# Altium schematic symbol library Symbol_Vlad.SchLib: 330 symbols (part 1 of 3)
Pins are listed as number, name and electrical type; pins without a type are passive.

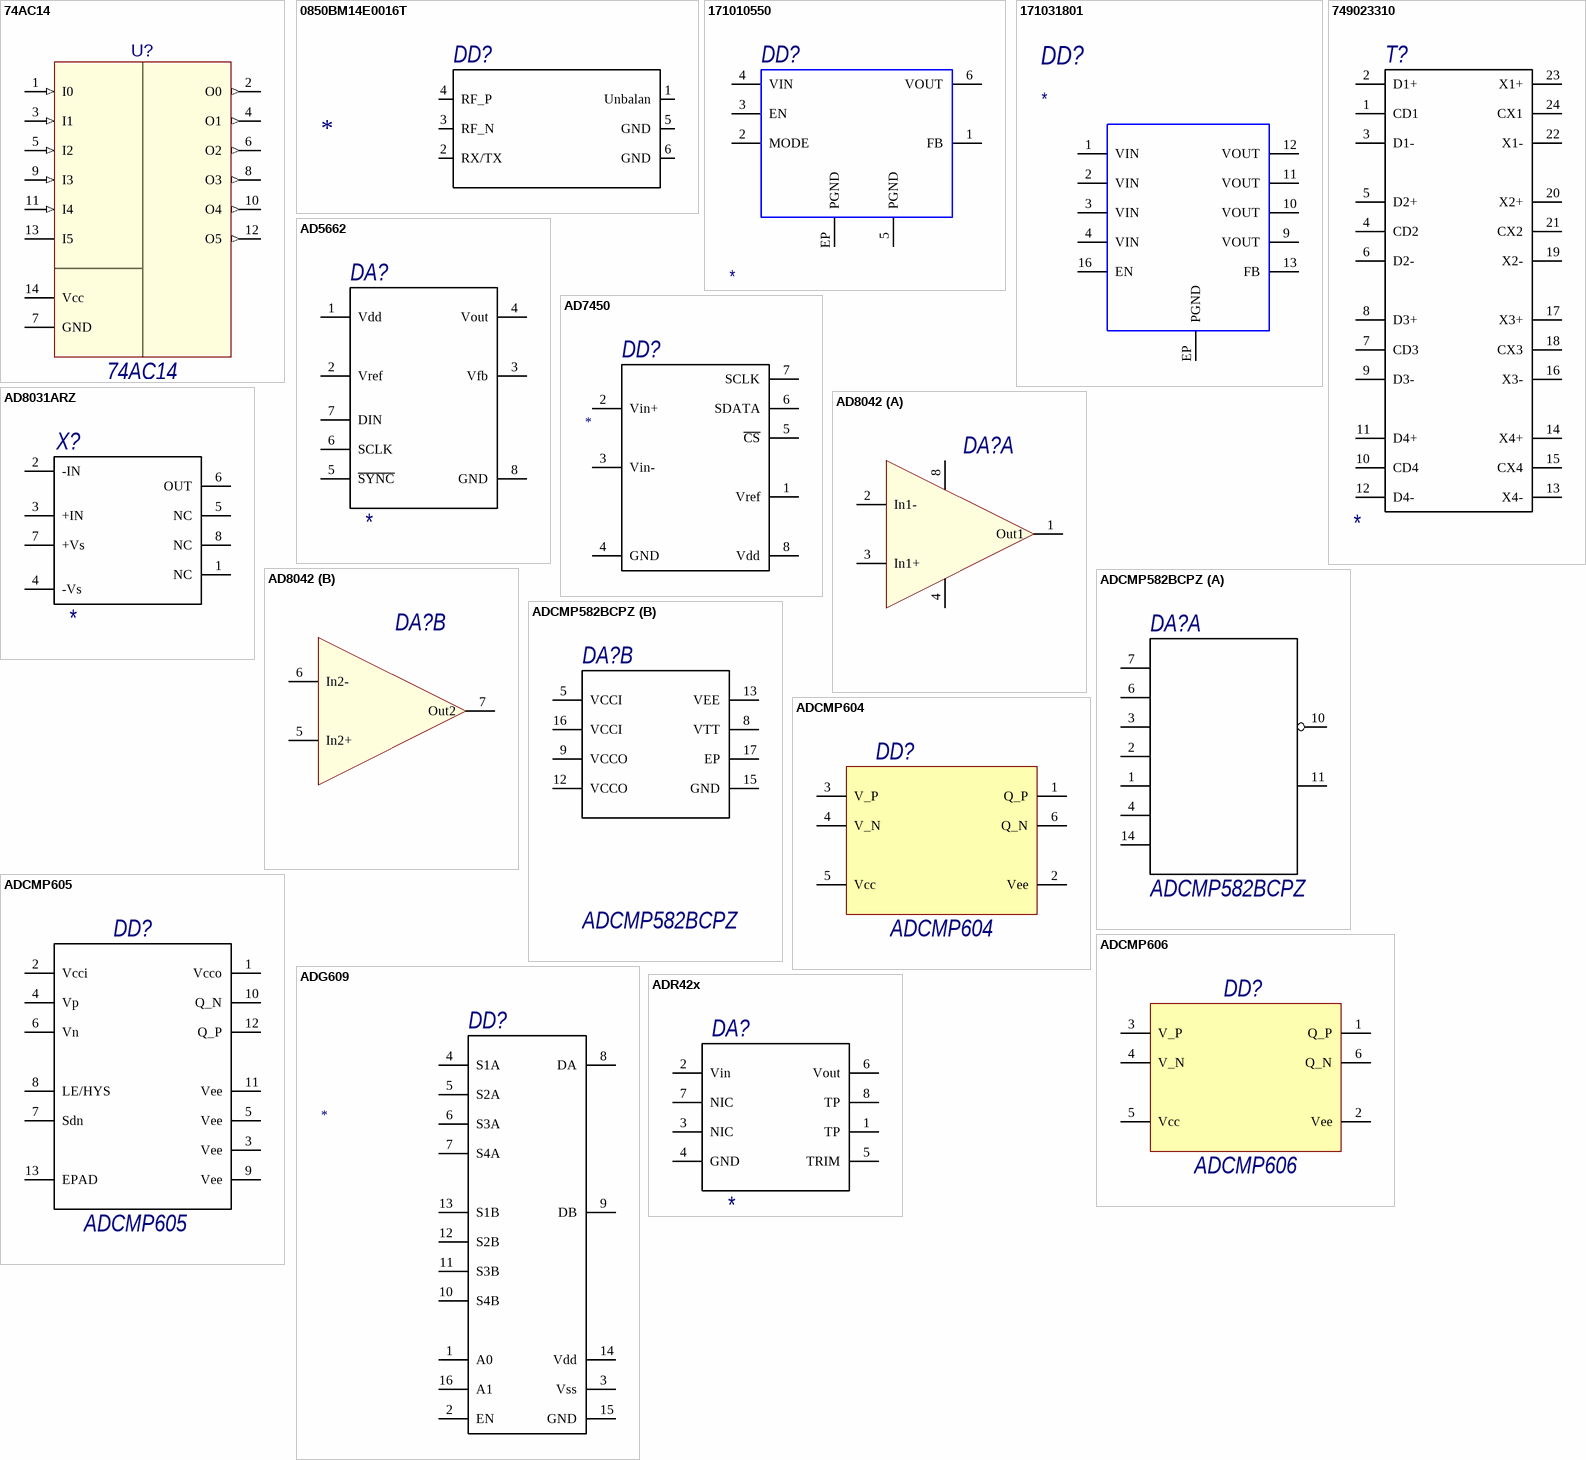
[diagram p0: symbols 74AC14 to ADR42x]

## 74AC14
designator U?
MntType: SMD; BOMDescription: SMD  SO14     74AC14; MPN: 74AC14; MSL: MSL 1; Package: SO14; RoHS: Comply; Pins: 14
footprint SO14
pins: 1 I0 (in), 2 O0 (out), 3 I1 (in), 4 O1 (out), 5 I2 (in), 6 O2 (out), 7 GND, 8 O3 (out), 9 I3 (in), 10 O4 (out), 11 I4 (in), 12 O5 (out), 13 I5, 14 Vcc (power)

## 0850BM14E0016T
designator DD?
pins: 1 Unbalan, 2 RX/TX, 3 RF_N, 4 RF_P, 5 GND, 6 GND

## 171010550
designator DD?
MPN: *
pins: 1 FB, 2 MODE, 3 EN, 4 VIN, 5 PGND, 6 VOUT, EP PGND

## 171031801
designator DD?
MPN: *
pins: 1 VIN, 2 VIN, 3 VIN, 4 VIN, 9 VOUT, 10 VOUT, 11 VOUT, 12 VOUT, 13 FB, 16 EN, EP PGND

## 749023310
designator T?
WE-LAN AQ SMT Transformer, 1000 Base-T, PoE (up to 350 mA), 180uH; MPN: *
footprint 749023310
pins: 1 CD1, 2 D1+, 3 D1-, 4 CD2, 5 D2+, 6 D2-, 7 CD3, 8 D3+, 9 D3-, 10 CD4, 11 D4+, 12 D4-, 13 X4-, 14 X4+, 15 CX4, 16 X3-, 17 X3+, 18 CX3, 19 X2-, 20 X2+, 21 CX2, 22 X1-, 23 X1+, 24 CX1

## AD5662
designator DA?
MPN: *
pins: 1 Vdd "Power Supply input 2.7V-5.5V range, Should be decouple with GND", 2 Vref "Reference Voltage input", 3 Vfb "Feedback input, connect it with Vout", 4 Vout "Analog Output Voltage from DAC", 5 ~{SYNC} "Active Low", 6 SCLK "Serial Clock input, Up to 30MHz", 7 DIN "Serial Data Input for 24-bit shift register", 8 GND "Ground"

## AD7450
designator DD?
pins: 1 Vref, 2 Vin+, 3 Vin-, 4 GND, 5 ~{CS}, 6 SDATA, 7 SCLK, 8 Vdd

## AD8031ARZ
designator X?
ComponentLink1Description: Datasheet; MPN: *
pins: 1 NC, 2 -IN, 3 +IN, 4 -Vs, 5 NC, 6 OUT, 7 +Vs, 8 NC

## AD8042
designator DA?
part A pins: 1 Out1, 2 In1-, 3 In1+, 4 GND (power), 8 V+ (power)
part B pins: 5 In2+, 6 In2-, 7 Out2

## ADCMP582BCPZ
designator DA?
Ultrafast SiGe Voltage Comparator, + / - 5 V, 180 ps Delay, Industrial, 16-pin QFN (CP-16-3), Reel; MPN: ADCMP582BCPZ
part A pins: 1 VTP, 2 VP, 3 VN, 4 VTN, 6 ~{LE}, 7 LE, 10 ~{Q}, 11 Q, 14 HYS
part B pins: 5 VCCI (power) "Positive Supply Voltage.", 8 VTT (power) "Termination Return Pin for the LE/L\E\ Input Pins. For the ADCMP582 (PECL output stage), this pin should be connected to the VCCO -2 V termination potential.", 9 VCCO (power) "Digital Ground Pin/Positive Logic Power Supply Terminal. For the ADCMP582, this pin should be connected to the positive logic power VCCO supply.", 12 VCCO (power) "Digital Ground Pin/Positive Logic Power Supply Terminal. For the ADCMP582, this pin should be connected to the positive logic power VCCO supply.", 13 VEE (power) "Negative Power Supply.", 15 GND (power) "Analog Ground.", 16 VCCI (power) "Positive Supply Voltage.", 17 EP "The metallic back surface of the package is not electrically connected to any part of the circuit. It can be left floating for optimal electrical isolation between the package handle and the substrate of the die. It can also (See Datasheet)"

## ADCMP604
designator DD?
pins: 1 Q_P, 2 Vee, 3 V_P, 4 V_N, 5 Vcc, 6 Q_N

## ADCMP605
designator DD?
pins: 1 Vcco, 2 Vcci, 3 Vee, 4 Vp, 5 Vee, 6 Vn, 7 Sdn, 8 LE/HYS, 9 Vee, 10 Q_N, 11 Vee, 12 Q_P, 13 EPAD

## ADCMP606
designator DD?
pins: 1 Q_P, 2 Vee, 3 V_P, 4 V_N, 5 Vcc, 6 Q_N

## ADG609
designator DD?
pins: 1 A0, 2 EN, 3 Vss, 4 S1A, 5 S2A, 6 S3A, 7 S4A, 8 DA, 9 DB, 10 S4B, 11 S3B, 12 S2B, 13 S1B, 14 Vdd, 15 GND, 16 A1

## ADR42x
designator DA?
ComponentLink1Description: Datasheet; MPN: *
pins: 1 TP "Test Pin, do not connect", 2 Vin "Input Voltage", 3 NIC "No Internal Connect", 4 GND "Ground Pin", 5 TRIM "Trim Terminal", 6 Vout "Output Voltage", 7 NIC "No Internal Connect", 8 TP "Test Pin, do not connect"

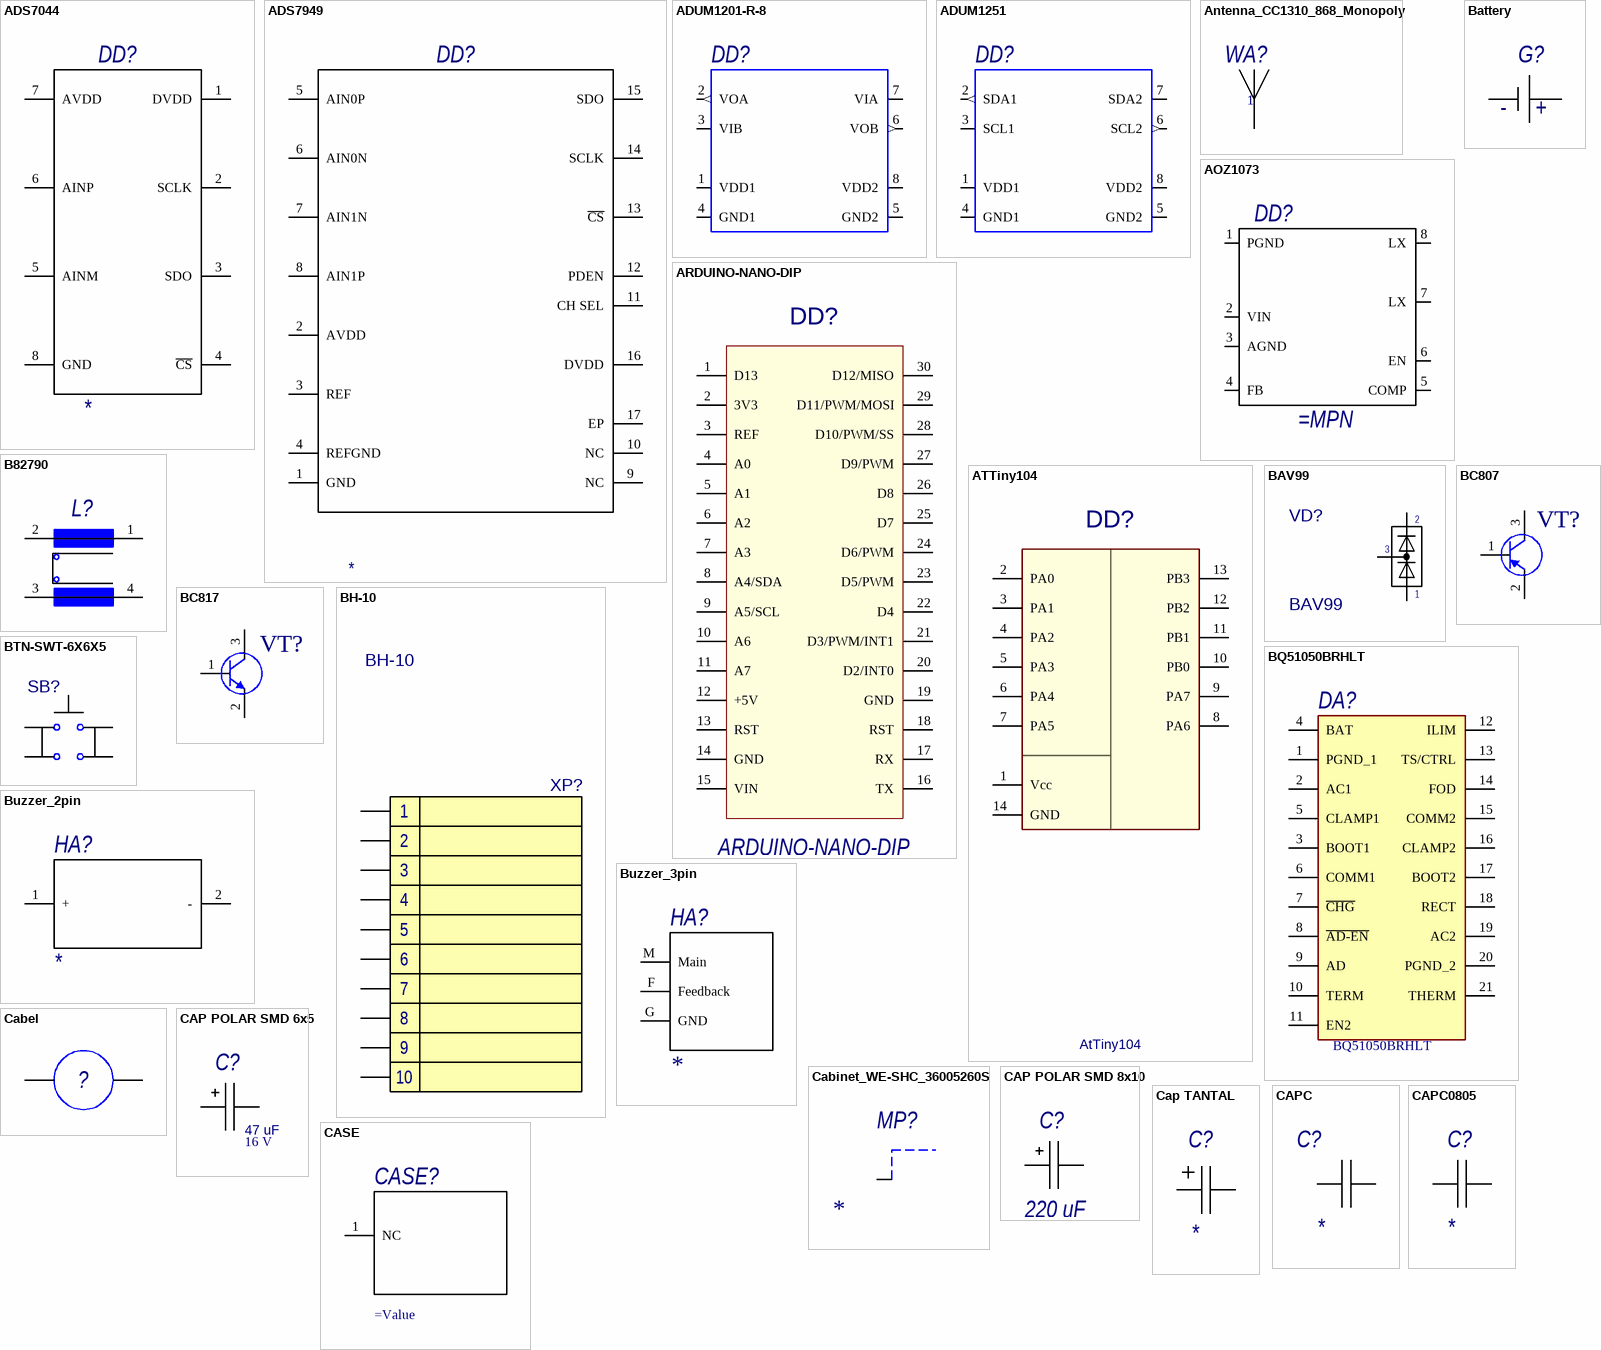
[diagram p1: symbols ADS7044 to CASE]

## ADS7044
designator DD?
ADC Ultra-Low Power, Ultra-Small Size, 12-Bit, 1-MSPS, SAR ADC; MPN: *; Datasheet: *
pins: 1 DVDD, 2 SCLK, 3 SDO, 4 ~{CS}, 5 AINM, 6 AINP, 7 AVDD, 8 GND

## ADS7949
designator DD?
ADC 8-Bit, 2 MSPS, Dual Channel, Pseudo-Differential, uPower Serial SAR, -40 to 125 C, 16-pin QFN (RTE16); MPN: *
pins: 1 GND "Power supply ground; all analog and digital signals are referred with respect to this pin.", 2 AVDD "ADC power supply.", 3 REF "ADC positive reference input; decouple this pin with REFGND", 4 REFGND "Reference return; short to analog ground plane", 5 AIN0P "Positive analog input, channel 0", 6 AIN0N "Negative analog input, channel 0. The allowable signal swing on this pin is ±0.2V; this pin", 7 AIN1N "Negative analog input, channel 1. The allowable signal swing on this pin is ±0.2V; this pin", 8 AIN1P "Positive analog input, channel 1.", 9 NC "Not connected internally, TI recommends externally shorting this pin to GND.", 10 NC "Not connected internally, it is recommended to externally short this pin to GND.", 11 CH SEL "This pin selects the analog input channel. Low = Channel 0 High = Channel 1", 12 PDEN "This pin enables a power-down feature if it is high at the C\S\ rising edge", 13 ~{CS} "Chip select signal; active low", 14 SCLK "Serial SPI clock", 15 SDO "Serial data out", 16 DVDD "Digital I/O supply", 17 EP

## ADUM1201-R-8
designator DD?
pins: 1 VDD1 (power) "Supply Voltage for Isolator Side 1.", 2 VOA (out) "Logic Output A.", 3 VIB "Logic Input B.", 4 GND1 (power) "Ground 1. Ground Reference for Isolator Side 1.", 5 GND2 (power) "Ground 2. Ground Reference for Isolator Side 2.", 6 VOB (out) "Logic Output B.", 7 VIA "Logic Input A.", 8 VDD2 (power) "Supply Voltage for Isolator Side 2."

## ADUM1251
designator DD?
pins: 1 VDD1 (power) "Supply Voltage for Isolator Side 1.", 2 SDA1 (out) "Logic Output A.", 3 SCL1 "Logic Input B.", 4 GND1 (power) "Ground 1. Ground Reference for Isolator Side 1.", 5 GND2 (power) "Ground 2. Ground Reference for Isolator Side 2.", 6 SCL2 (out) "Logic Output B.", 7 SDA2 "Logic Input A.", 8 VDD2 (power) "Supply Voltage for Isolator Side 2."

## Antenna_CC1310_868_Monopoly
designator WA?, comment 1  (no BOM)
pins: 1

## AOZ1073
designator DD?
pins: 1 PGND, 2 VIN, 3 AGND, 4 FB, 5 COMP (power), 6 EN (power), 7 LX (power), 8 LX (power)

## ARDUINO-NANO-DIP
designator DD?
MntType: DIP; BOMDescription: DIP ARDUINO-NANO-DIP      ARDUINO-NANO-DIP; MPN: ARDUINO-NANO-DIP; MSL: MSL 1; RoHS: Comply; PartType: ARDUINO-NANO-DIP
footprint ARDUINO-NANO-DIP
pins: 1 D13, 2 3V3, 3 REF, 4 A0, 5 A1, 6 A2, 7 A3, 8 A4/SDA, 9 A5/SCL, 10 A6, 11 A7, 12 +5V, 13 RST, 14 GND, 15 VIN, 16 TX, 17 RX, 18 RST, 19 GND, 20 D2/INT0, 21 D3/PWM/INT1, 22 D4, 23 D5/PWM, 24 D6/PWM, 25 D7, 26 D8, 27 D9/PWM, 28 D10/PWM/SS, 29 D11/PWM/MOSI, 30 D12/MISO

## ATTiny104
designator DD?, comment AtTiny104
MntType: SMD; BOMDescription: SMD ATTiny104      AtTiny104; MPN: AtTiny104; MSL: MSL 1; RoHS: Comply; PartType: ATTiny104
footprint SOIC127P600X175-14N (SOIC, 14-Leads, Body 8,65x3,90mm, Pitch 1,27mm, IPC Medium Density)
pins: 1 Vcc (power), 2 PA0, 3 PA1, 4 PA2, 5 PA3, 6 PA4, 7 PA5, 8 PA6, 9 PA7, 10 PB0, 11 PB1, 12 PB2, 13 PB3, 14 GND (power)

## B82790
designator L?
pins: 1, 2, 3, 4

## Battery
designator G?  (value not drawn)
pins: 1 +, 2 -

## BAV99
designator VD?
MntType: SMD; BOMDescription: SMD DIODE ARRAY SOT-23     BAV99; MPN: BAV99; MSL: MSL 1; Package: SOT-23; RoHS: Comply; PartType: DIODE ARRAY; Pins: 3
footprint SOT-23
pins: 1, 2, 3

## BC807
designator VT?  (value not drawn)
pins: 1 B, 2 E, 3 C

## BC817
designator VT?  (value not drawn)
pins: 1 B, 2 E, 3 C

## BH-10
designator XP?
MntType: DIP; BOMDescription: DIP CONNECTOR BH-10     BH-10; MPN: BH-10; MSL: MSL 1; Package: BH-10; RoHS: Comply; PartType: CONNECTOR; Pins: 10
footprint BH-10
pins: 1, 2, 3, 4, 5, 6, 7, 8, 9, 10

## BQ51050BRHLT
designator DA?
Power Supply
pins: 1 PGND_1, 2 AC1, 3 BOOT1, 4 BAT, 5 CLAMP1, 6 COMM1, 7 ~{CHG}, 8 ~{AD-EN}, 9 AD, 10 TERM, 11 EN2, 12 ILIM, 13 TS/CTRL, 14 FOD, 15 COMM2, 16 CLAMP2, 17 BOOT2, 18 RECT, 19 AC2, 20 PGND_2, 21 THERM

## BTN-SWT-6X6X5
designator SB?
MPN: BTN-SWT-6X6X5; MntType: SMD; BOMDescription: SMD BUTTON BTN-SWT-6X6X5     BTN-SWT-6X6X5; MSL: MSL 1; Package: BTN-SWT-6X6X5; RoHS: Comply; PartType: BUTTON
footprint BTN-SWT-6X6X5
pins: 1, 2, 3, 4

## Buzzer_2pin
designator HA?
MPN: *
pins: 1 +, 2 -

## Buzzer_3pin
designator HA?
MPN: *
pins: F Feedback, G GND, M Main

## Cabel
designator ?  (value not drawn)
pins: 1, 2

## Cabinet_WE-SHC_36005260S
designator MP?
pins: 1

## CAP POLAR SMD 6x5
designator C?, comment value 47 uF  Voltage: 16 V  (hidden comment: 47 uF 16 V)
MntType: SMD; Tolerance: 20; BOMDescription: SMD ALUMINIUM CAPACITOR ECAP SMD 6x5 47 uF 20 16 V; MSL: MSL 1; Package: ECAP SMD 6x5; RoHS: Comply; PartType: ALUMINIUM CAPACITOR; Pins: 2
footprint CAPAE_POL_SMD_D_0605
pins: 1, 2

## CAP POLAR SMD 8x10
designator C?, comment value 220 uF  (hidden comment: 220 uF 25 V)
MntType: SMD; Tolerance: 20; BOMDescription: SMD ALUMINIUM CAPACITOR ECAP SMD 8x10 220 uF 20 25 V; Voltage: 25 V; MSL: MSL 1; Package: ECAP SMD 8x10; RoHS: Comply; PartType: ALUMINIUM CAPACITOR; Pins: 2
footprint CAPAE_POL_SMD_F_0810
pins: 1, 2

## Cap TANTAL
designator C?
MntType: SMD; BOMDescription: SMD CHIP TANTALUM CAPACITOR CAPT TYPE *; MSL: MSL 1; Package: CAPT TYPE; RoHS: Comply; PartType: CHIP TANTALUM CAPACITOR; Pins: 2; Value: *
footprint TYPEC
footprint TYPED
pins: 1, 2

## CAPC
designator C?, comment * *  (value not drawn)
MntType: SMD; BOMDescription: SMD CHIP CERAMIC CAPACITOR CAPC0603 *  *; MSL: MSL 1; Package: CAPC0603; RoHS: Comply; PartType: CHIP CERAMIC CAPACITOR; Pins: 2; Voltage: *; Value: *
pins: 1, 2

## CAPC0805
designator C?, comment * *  (value not drawn)
MntType: SMD; BOMDescription: SMD CHIP CERAMIC CAPACITOR CAPC0603 *  *; MSL: MSL 1; Package: CAPC0603; RoHS: Comply; PartType: CHIP CERAMIC CAPACITOR; Pins: 2; Voltage: *; Value: *
pins: 1, 2

## CASE
designator CASE?
pins: 1 NC

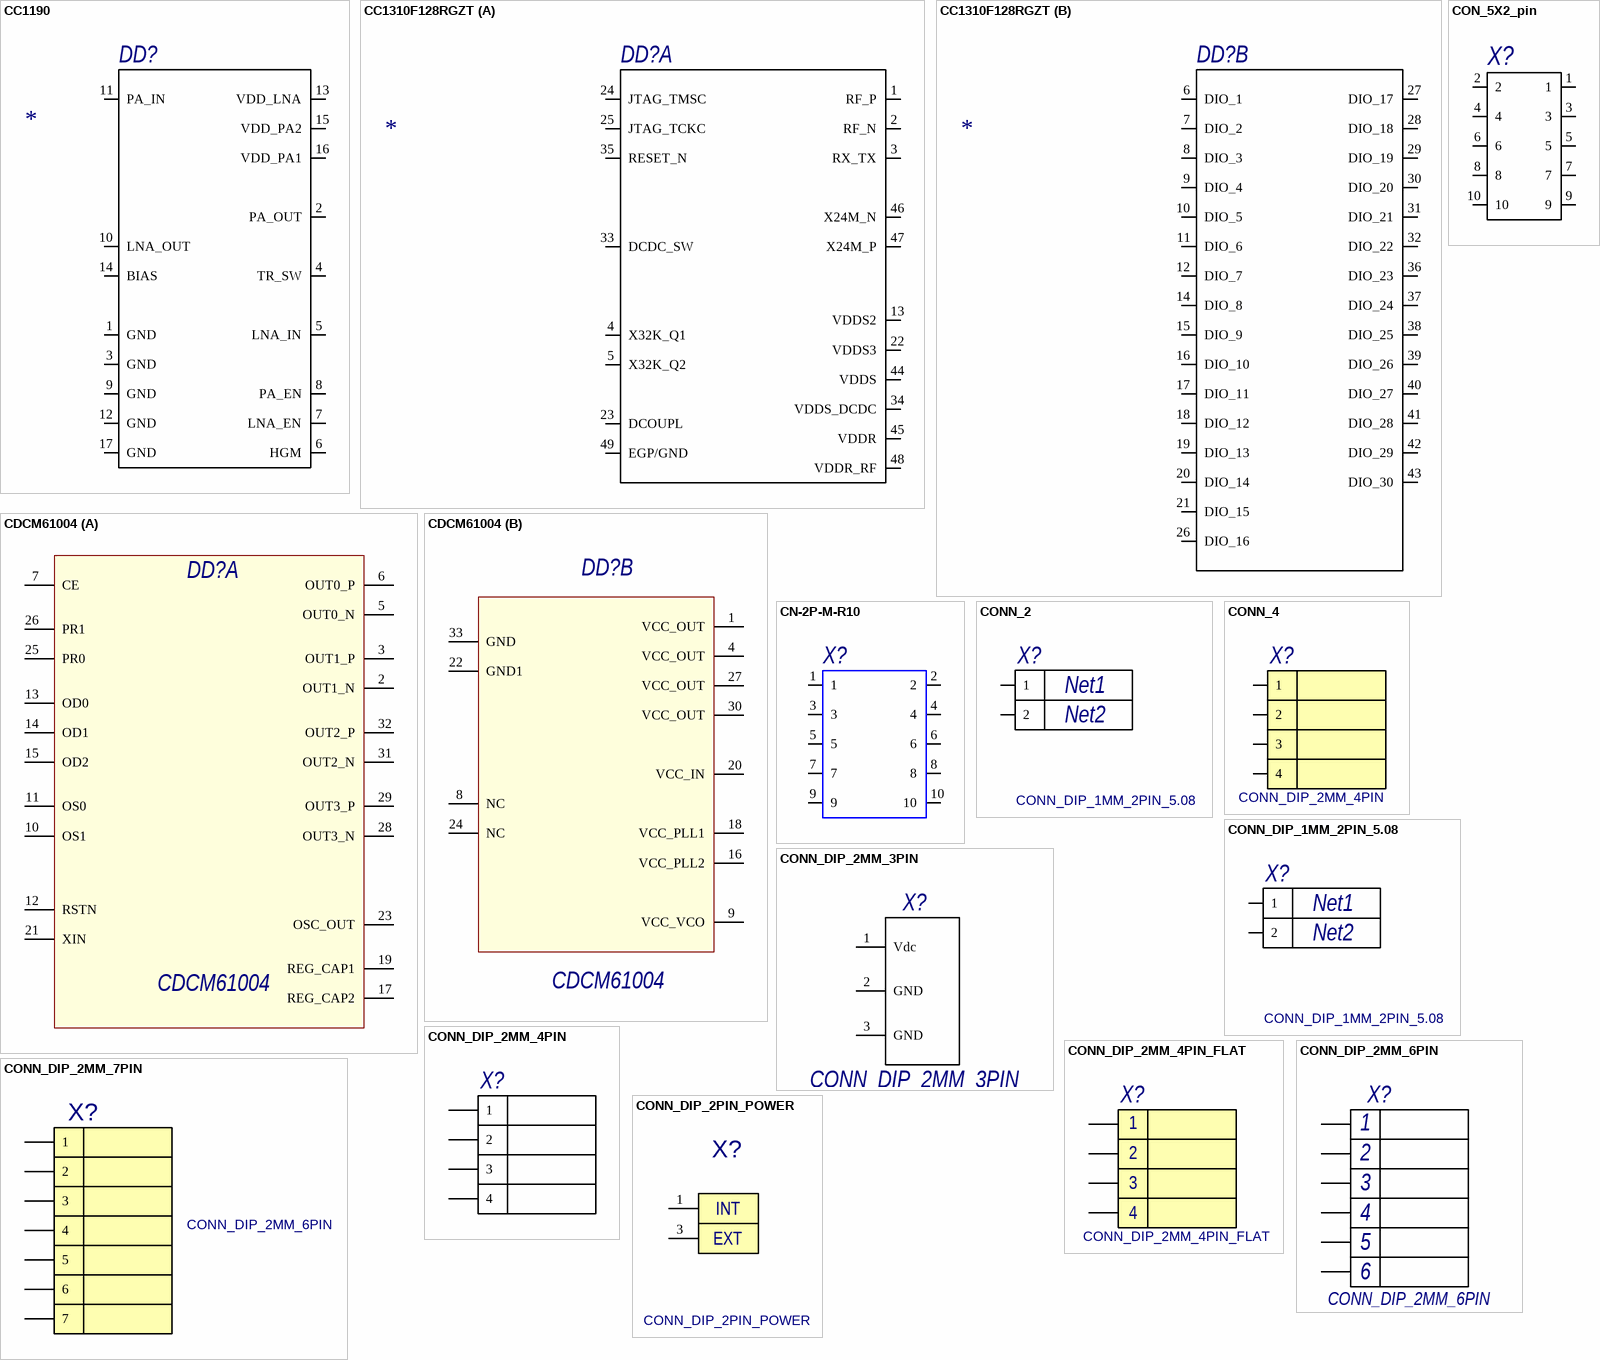
[diagram p2: symbols CC1190 to CONN_DIP_2PIN_POWER]

## CC1190
designator DD?
pins: 1 GND, 2 PA_OUT, 3 GND, 4 TR_SW, 5 LNA_IN, 6 HGM, 7 LNA_EN, 8 PA_EN, 9 GND, 10 LNA_OUT, 11 PA_IN, 12 GND, 13 VDD_LNA, 14 BIAS, 15 VDD_PA2, 16 VDD_PA1, 17 GND

## CC1310F128RGZT
designator DD?
part A pins: 1 RF_P, 2 RF_N, 3 RX_TX, 4 X32K_Q1, 5 X32K_Q2, 13 VDDS2, 22 VDDS3, 23 DCOUPL, 24 JTAG_TMSC, 25 JTAG_TCKC, 33 DCDC_SW, 34 VDDS_DCDC, 35 RESET_N, 44 VDDS, 45 VDDR, 46 X24M_N, 47 X24M_P, 48 VDDR_RF, 49 EGP/GND
part B pins: 6 DIO_1, 7 DIO_2, 8 DIO_3, 9 DIO_4, 10 DIO_5, 11 DIO_6, 12 DIO_7, 14 DIO_8, 15 DIO_9, 16 DIO_10, 17 DIO_11, 18 DIO_12, 19 DIO_13, 20 DIO_14, 21 DIO_15, 26 DIO_16, 27 DIO_17, 28 DIO_18, 29 DIO_19, 30 DIO_20, 31 DIO_21, 32 DIO_22, 36 DIO_23, 37 DIO_24, 38 DIO_25, 39 DIO_26, 40 DIO_27, 41 DIO_28, 42 DIO_29, 43 DIO_30

## CDCM61004
designator DD?
part A pins: 2 OUT1_N, 3 OUT1_P, 5 OUT0_N, 6 OUT0_P, 7 CE, 10 OS1, 11 OS0, 12 RSTN, 13 OD0, 14 OD1, 15 OD2, 17 REG_CAP2, 19 REG_CAP1, 21 XIN, 23 OSC_OUT, 25 PR0, 26 PR1, 28 OUT3_N, 29 OUT3_P, 31 OUT2_N, 32 OUT2_P
part B pins: 1 VCC_OUT, 4 VCC_OUT, 8 NC, 9 VCC_VCO, 16 VCC_PLL2, 18 VCC_PLL1, 20 VCC_IN, 22 GND1, 24 NC, 27 VCC_OUT, 30 VCC_OUT, 33 GND

## CN-2P-M-R10
designator X?
pins: 1, 2, 3, 4, 5, 6, 7, 8, 9, 10

## CON_5X2_pin
designator X?  (value not drawn)
pins: 1, 2, 3, 4, 5, 6, 7, 8, 9, 10

## CONN_2
designator X?, comment CONN_DIP_1MM_2PIN_5.08  Wire2: Net2  Wire1: Net1
MntType: DIP; BOMDescription: DIP CONNECTOR CONN_1X2; MSL: MSL 1; Package: CONN_1X2; RoHS: Comply; PartType: CONNECTOR; Pins: 3
pins: 1, 2

## CONN_4
designator X?, comment CONN_DIP_2MM_4PIN
MntType: DIP; BOMDescription: DIP CONNECTOR CONN_2X4_F; MSL: MSL 1; Package: CONN_2X4_F; RoHS: Comply; PartType: CONNECTOR
pins: 1, 2, 3, 4

## CONN_DIP_1MM_2PIN_5.08
designator X?  Wire2: Net2  Wire1: Net1
MntType: DIP; BOMDescription: DIP CONNECTOR CONN_1X2; MSL: MSL 1; Package: CONN_1X2; RoHS: Comply; PartType: CONNECTOR; Pins: 3
pins: 1, 2

## CONN_DIP_2MM_3PIN
designator X?
MntType: DIP; BOMDescription: DIP CONNECTOR CONN_2X3; MSL: MSL 1; Package: CONN_2X3; RoHS: Comply; PartType: CONNECTOR; Pins: 3
pins: 1 Vdc, 2 GND, 3 GND

## CONN_DIP_2MM_4PIN
designator X?  (value not drawn)
MntType: DIP; BOMDescription: DIP CONNECTOR CONN_2X4_F; MSL: MSL 1; Package: CONN_2X4_F; RoHS: Comply; PartType: CONNECTOR
pins: 1, 2, 3, 4

## CONN_DIP_2MM_4PIN_FLAT
designator X?
MntType: DIP; BOMDescription: DIP CONNECTOR CONN_2X4_T; MSL: MSL 1; Package: CONN_2X4_T; RoHS: Comply; PartType: CONNECTOR
footprint CONN_DIP_2MM_4PIN_FLAT
pins: 1, 2, 3, 4

## CONN_DIP_2MM_6PIN
designator X?
MntType: DIP; BOMDescription: DIP CONNECTOR CONN_2X6; MSL: MSL 1; Package: CONN_2X6; RoHS: Comply; PartType: CONNECTOR
footprint CONN_DIP_2MM_6PIN
pins: 1, 2, 3, 4, 5, 6

## CONN_DIP_2MM_7PIN
designator X?, comment CONN_DIP_2MM_6PIN
MntType: DIP; BOMDescription: DIP CONNECTOR CONN_2X6; MSL: MSL 1; Package: CONN_2X6; RoHS: Comply; PartType: CONNECTOR
pins: 1, 2, 3, 4, 5, 6, 7

## CONN_DIP_2PIN_POWER
designator X?
MntType: DIP; BOMDescription: DIP CONNECTOR CONN_1X2; MSL: MSL 1; Package: CONN_1X2; RoHS: Comply; PartType: CONNECTOR; Pins: 3
footprint CONN_DIP_2PIN_POWER
pins: 1, 3
text: INT; EXT

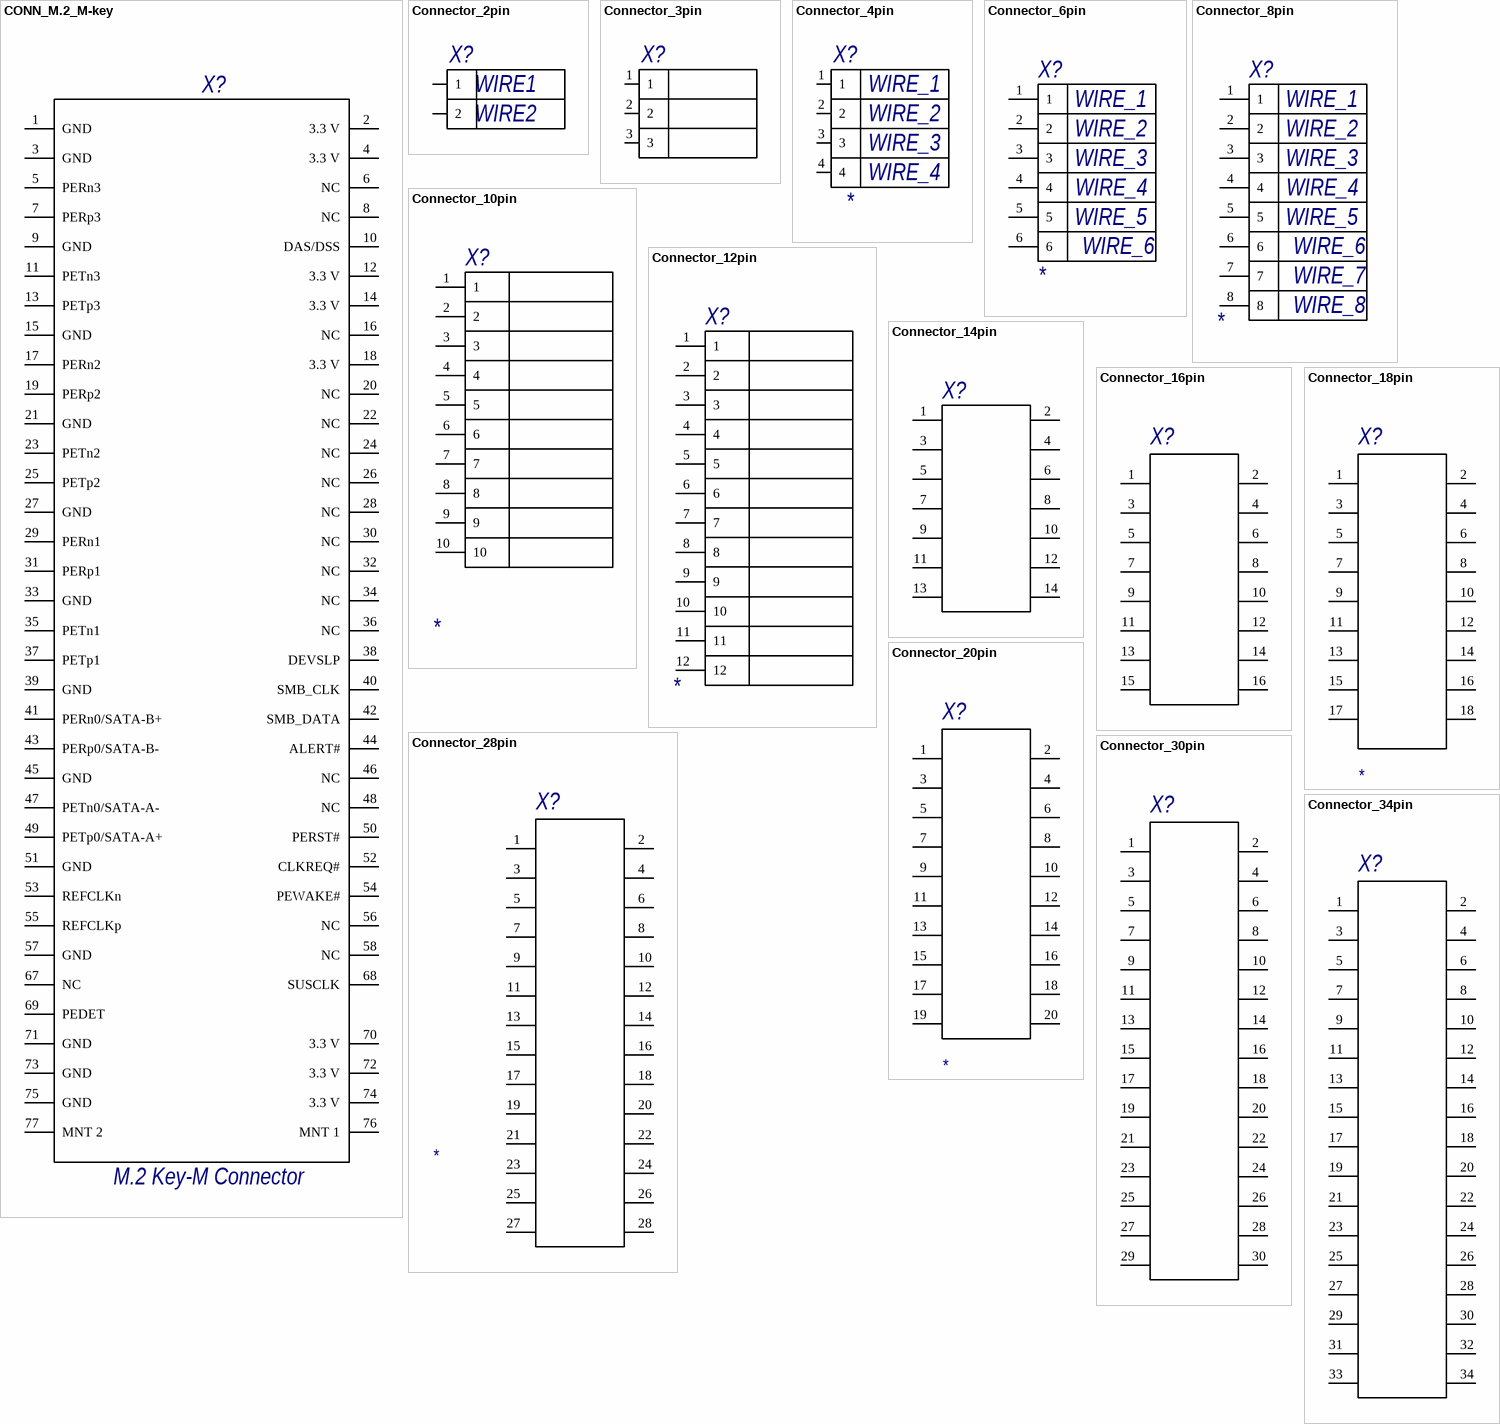
[diagram p3: symbols CONN_M.2_M-key to Connector_34pin]

## CONN_M.2_M-key
designator X?, comment M.2 Key-M Connector
Conn Egde Dual Female 67POS 0.020; Manufacturer: TE; Manufacturer Part Number: 1-2199230-6; Number Of Contacts: 67; Current Rating: 0.5A; Pitch: 0.5mm; Is Female: yes; Voltage Rating: 50V; Conn Orientation: Right Angle; Automotive: No; Temperature Range High: +80°C; Package: 1-2199230-6; Category: Conn; Temperature: -40°C to +80°C; Number Of Rows: 2; ComponentLink2URL: http://www.te.com/commerce/DocumentDelivery/DDEController?Action=showdoc&DocId=Specification+Or+Standard%7F114-115006%7FB%7Fpdf%7FEnglish%7FENG_SS_114-115006_B_114-115006_REV_B.pdf%7F1-2199230-6; Height: 4.2mm; RoHS: TRUE; Conn Gender: Female; Footprint Url: http://www.te.com/commerce/DocumentDelivery/DDEController?Action=showdoc&DocId=Customer+Drawing%7F2199230%7FB2%7Fpdf%7FEnglish%7FENG_CD_2199230_B2.pdf%7F1-2199230-6; Digikey Description: CONN EDGE DUAL FMALE 67POS 0.020; Device Class L2: Card Edge Connectors; Contact Material: Gold,Tin; Device Class L1: Connectors; Device Class L3: unset; ComponentLink2Description: Datasheet; Temperature Range Low: -40°C; Octopart: https://octopart.com/1-2199230-6-te+connectivity-34969376; Lead Free: Yes
footprint FP-1-2199230-6-MFG
pins: 1 GND "Ground", 2 3.3 V "Supply pin, 3.3 V", 3 GND "Ground", 4 3.3 V "Supply pin, 3.3 V", 5 PERn3 "PCIe Lane 3 Rx", 6 NC, 7 PERp3 "PCIe Lane 3 Rx", 8 NC, 9 GND "Ground", 10 DAS/DSS "Device Activity Signal / Disable Staggered Spinup (I/O) / LED_1# (I)(0/3.3V)", 11 PETn3 "PCIe Lane 3 Tx", 12 3.3 V "Supply pin, 3.3 V", 13 PETp3 "PCIe Lane 3 Tx", 14 3.3 V "Supply pin, 3.3 V", 15 GND "Ground", 16 NC, 17 PERn2 "PCIe Lane 2 Rx", 18 3.3 V "Supply pin, 3.3 V", 19 PERp2 "PCIe Lane 2 Rx", 20 NC, 21 GND "Ground", 22 NC, 23 PETn2 "PCIe Lane 2 Tx", 24 NC, 25 PETp2 "PCIe Lane 2 Tx", 26 NC, 27 GND "Ground", 28 NC, 29 PERn1 "PCIe Lane 1 Rx", 30 NC, 31 PERp1 "PCIe Lane 1 Rx", 32 NC, 33 GND "Ground", 34 NC, 35 PETn1 "PCIe Lane 1 Tx", 36 NC, 37 PETp1 "PCIe Lane 1 Tx", 38 DEVSLP "(O) Device Sleep, input. If driven high the host is informing the  SSD to enter a low power state", 39 GND "Ground", 40 SMB_CLK "(I/O)(0/1.8V)", 41 PERn0/SATA-B+ "Host receiver differential signal pair. If in PCIe mode PCIe Lane 0 Rx", 42 SMB_DATA "(I/O) (0/1.8V)", 43 PERp0/SATA-B- "Host receiver differential signal pair. If in PCIe mode PCIe Lane 0 Rx", 44 ALERT# "(I) (0/1.8V)", 45 GND "Ground", 46 NC, 47 PETn0/SATA-A- "Host transmitter differential signal pair. If in PCIe mode PCIe Lane 0 Tx", 48 NC, 49 PETp0/SATA-A+ "Host transmitter differential signal pair. If in PCIe mode PCIe Lane 0 Tx", 50 PERST# "PCIe reset", 51 GND "Ground", 52 CLKREQ# "Reference clock request signal", 53 REFCLKn "PCIe Reference Clock signals (100 MHz)", 54 PEWAKE# "PCIe WAKE# Open Drain with pull up on platform. Active Low.", 55 REFCLKp "PCIe Reference Clock signals (100 MHz)", 56 NC, 57 GND "Ground", 58 NC, 67 NC, 68 SUSCLK "32.768 kHz clock supply input provided by the Platform chipset", 69 PEDET "Low- SATA, High-PCIe", 70 3.3 V "Supply pin, 3.3 V", 71 GND "Ground", 72 3.3 V "Supply pin, 3.3 V", 73 GND "Ground", 74 3.3 V "Supply pin, 3.3 V", 75 GND "Ground", 76 MNT 1 "Mounting pin", 77 MNT 2 "Mounting pin"

## Connector_2pin
designator X?, comment PLS2  (value not drawn)
MPN: PLS2; Wire2: WIRE2; Wire1: WIRE1
pins: 1, 2

## Connector_3pin
designator X?, comment PLS3  (value not drawn)
pins: 1, 2, 3

## Connector_4pin
designator X?, comment Wire1: WIRE_1  Wire2: WIRE_2  Wire3: WIRE_3  Wire4: WIRE_4  (hidden comment: PLS4)
MPN: *
pins: 1, 2, 3, 4

## Connector_6pin
designator X?, comment Wire6: WIRE_6  Wire5: WIRE_5  Wire4: WIRE_4  Wire3: WIRE_3  Wire2: WIRE_2  Wire1: WIRE_1  (hidden comment: PLS5)
Wire8: WIRE_8; Wire7: WIRE_7; MPN: *
pins: 1, 2, 3, 4, 5, 6

## Connector_8pin
designator X?, comment Wire8: WIRE_8  Wire7: WIRE_7  Wire6: WIRE_6  Wire5: WIRE_5  Wire4: WIRE_4  Wire3: WIRE_3  Wire2: WIRE_2  Wire1: WIRE_1  (hidden comment: PLS5)
MPN: *
pins: 1, 2, 3, 4, 5, 6, 7, 8

## Connector_10pin
designator X?
MPN: *
pins: 1, 2, 3, 4, 5, 6, 7, 8, 9, 10

## Connector_12pin
designator X?
MPN: *
pins: 1, 2, 3, 4, 5, 6, 7, 8, 9, 10, 11, 12

## Connector_14pin
designator X?, comment PLS5  (value not drawn)
pins: 1, 2, 3, 4, 5, 6, 7, 8, 9, 10, 11, 12, 13, 14

## Connector_16pin
designator X?, comment PLS5  (value not drawn)
pins: 1, 2, 3, 4, 5, 6, 7, 8, 9, 10, 11, 12, 13, 14, 15, 16

## Connector_18pin
designator X?
MPN: *
pins: 1, 2, 3, 4, 5, 6, 7, 8, 9, 10, 11, 12, 13, 14, 15, 16, 17, 18

## Connector_20pin
designator X?
MPN: *
pins: 1, 2, 3, 4, 5, 6, 7, 8, 9, 10, 11, 12, 13, 14, 15, 16, 17, 18, 19, 20

## Connector_28pin
designator X?
MPN: *
pins: 1, 2, 3, 4, 5, 6, 7, 8, 9, 10, 11, 12, 13, 14, 15, 16, 17, 18, 19, 20, 21, 22, 23, 24, 25, 26, 27, 28

## Connector_30pin
designator X?, comment PLS5  (value not drawn)
pins: 1, 2, 3, 4, 5, 6, 7, 8, 9, 10, 11, 12, 13, 14, 15, 16, 17, 18, 19, 20, 21, 22, 23, 24, 25, 26, 27, 28, 29, 30

## Connector_34pin
designator X?, comment PLS5  (value not drawn)
pins: 1, 2, 3, 4, 5, 6, 7, 8, 9, 10, 11, 12, 13, 14, 15, 16, 17, 18, 19, 20, 21, 22, 23, 24, 25, 26, 27, 28, 29, 30, 31, 32, 33, 34

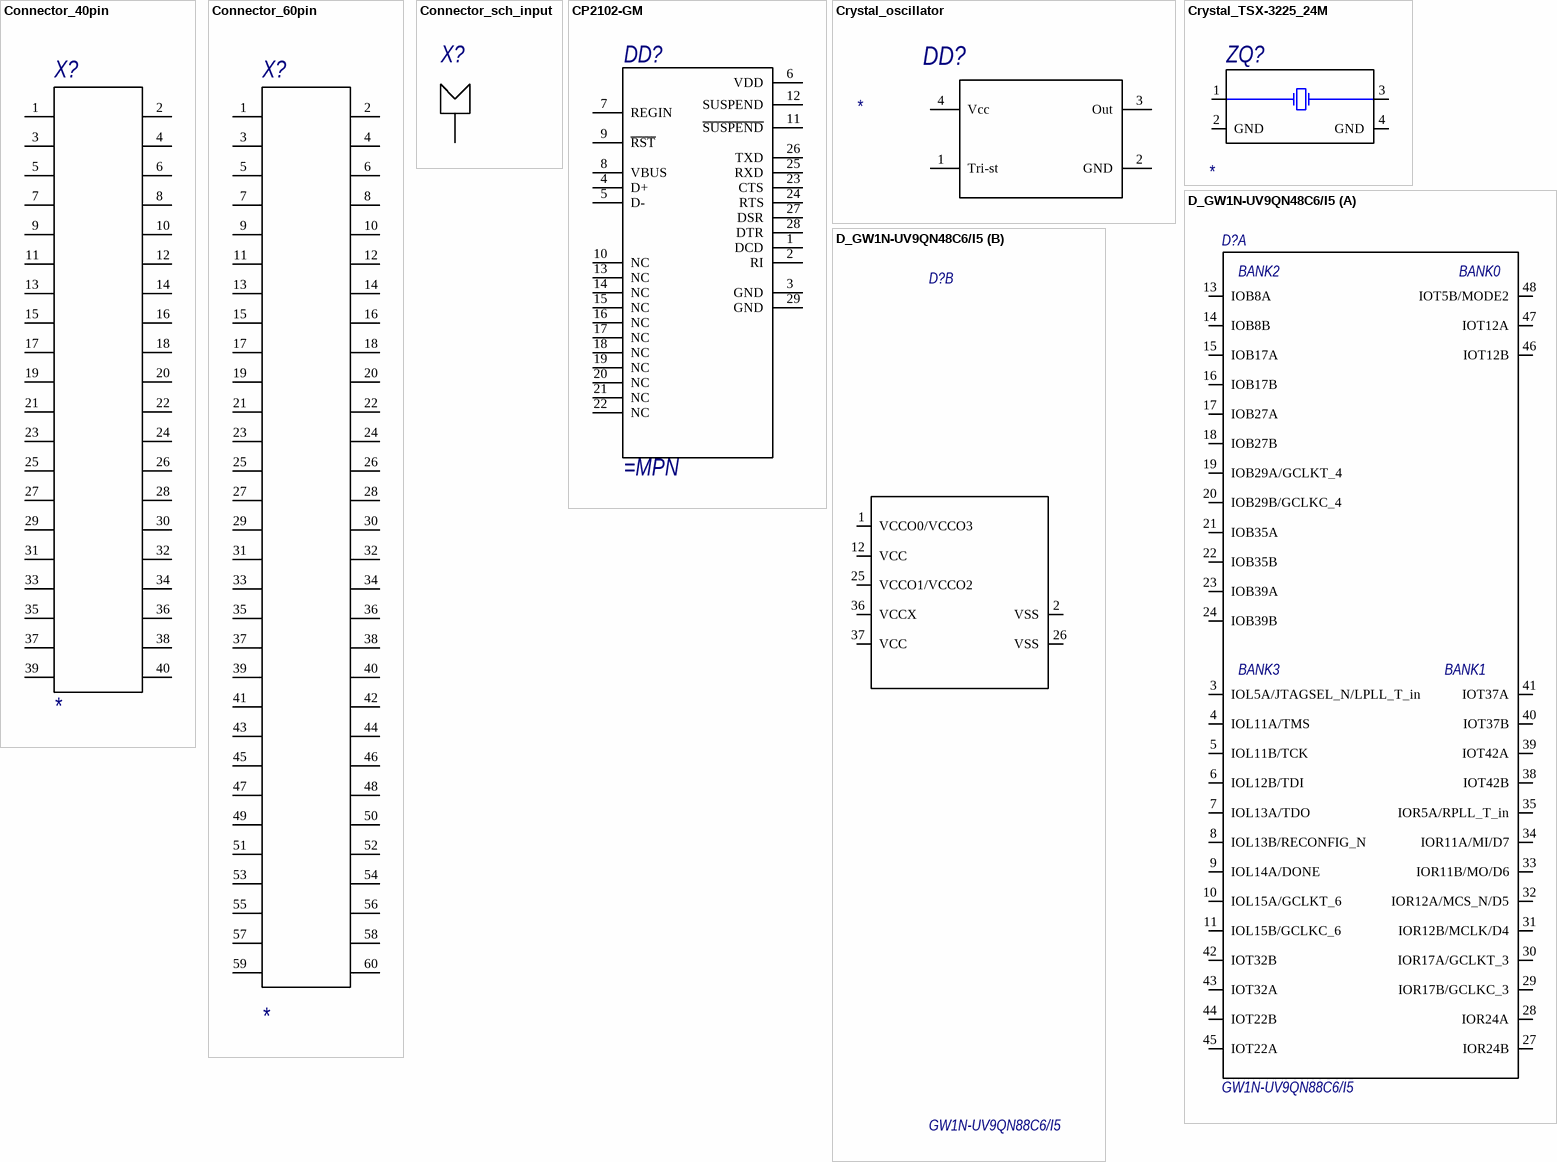
[diagram p4: symbols Connector_40pin to D_GW1N-UV9QN48C6/I5]

## Connector_40pin
designator X?, comment PLS5  (value not drawn)
MPN: *
pins: 1, 2, 3, 4, 5, 6, 7, 8, 9, 10, 11, 12, 13, 14, 15, 16, 17, 18, 19, 20, 21, 22, 23, 24, 25, 26, 27, 28, 29, 30, 31, 32, 33, 34, 35, 36, 37, 38, 39, 40

## Connector_60pin
designator X?, comment PLS5  (value not drawn)
MPN: *
pins: 1, 2, 3, 4, 5, 6, 7, 8, 9, 10, 11, 12, 13, 14, 15, 16, 17, 18, 19, 20, 21, 22, 23, 24, 25, 26, 27, 28, 29, 30, 31, 32, 33, 34, 35, 36, 37, 38, 39, 40, 41, 42, 43, 44, 45, 46, 47, 48, 49, 50, 51, 52, 53, 54, 55, 56, 57, 58, 59, 60

## Connector_sch_input
designator X?  (value not drawn)
pins: 5

## CP2102-GM
designator DD?
pins: 1 DCD, 2 RI, 3 GND, 4 D+, 5 D-, 6 VDD, 7 REGIN, 8 VBUS, 9 ~{RST}, 10 NC, 11 ~{SUSPEND}, 12 SUSPEND, 13 NC, 14 NC, 15 NC, 16 NC, 17 NC, 18 NC, 19 NC, 20 NC, 21 NC, 22 NC, 23 CTS, 24 RTS, 25 RXD, 26 TXD, 27 DSR, 28 DTR, 29 GND

## Crystal_oscillator
designator DD?
MPN: *
pins: 1 Tri-st, 2 GND, 3 Out, 4 Vcc

## Crystal_TSX-3225_24M
designator ZQ?
MPN: *
pins: 1 X1, 2 GND (power), 3 X2, 4 GND (power)

## D_GW1N-UV9QN48C6/I5
designator D?, comment GW1N-UV9QN88C6/I5
FPGA  8640 LUT; Manufacturer: GoWin; Part Number BOM: Микросхема GW1N-UV9QN88C6/I5 GoWin; Code: 1; Type: D; Component: Микросхема; Partnumber: GW1N-UV9QN88C6/I5; Footprint: QFN48; ComponentLink1Description: Datasheet; ComponentLink1URL: https://cloud.spbpu.com/apps/files/?dir=/ISDN/U2_1/Docs/Gowin/Hardware&fileid=6526868#pdfviewer
footprint QFN48_0.4Pitch_Tpad
part A pins: 3 IOL5A/JTAGSEL_N/LPLL_T_in, 4 IOL11A/TMS, 5 IOL11B/TCK, 6 IOL12B/TDI, 7 IOL13A/TDO, 8 IOL13B/RECONFIG_N, 9 IOL14A/DONE, 10 IOL15A/GCLKT_6, 11 IOL15B/GCLKC_6, 13 IOB8A, 14 IOB8B, 15 IOB17A, 16 IOB17B, 17 IOB27A, 18 IOB27B, 19 IOB29A/GCLKT_4, 20 IOB29B/GCLKC_4, 21 IOB35A, 22 IOB35B, 23 IOB39A, 24 IOB39B, 27 IOR24B, 28 IOR24A, 29 IOR17B/GCLKC_3, 30 IOR17A/GCLKT_3, 31 IOR12B/MCLK/D4, 32 IOR12A/MCS_N/D5, 33 IOR11B/MO/D6, 34 IOR11A/MI/D7, 35 IOR5A/RPLL_T_in, 38 IOT42B, 39 IOT42A, 40 IOT37B, 41 IOT37A, 42 IOT32B, 43 IOT32A, 44 IOT22B, 45 IOT22A, 46 IOT12B, 47 IOT12A, 48 IOT5B/MODE2
part B pins: 1 VCCO0/VCCO3, 2 VSS, 12 VCC, 25 VCCO1/VCCO2, 26 VSS, 36 VCCX, 37 VCC
part A text: BANK2; BANK0; BANK3; BANK1

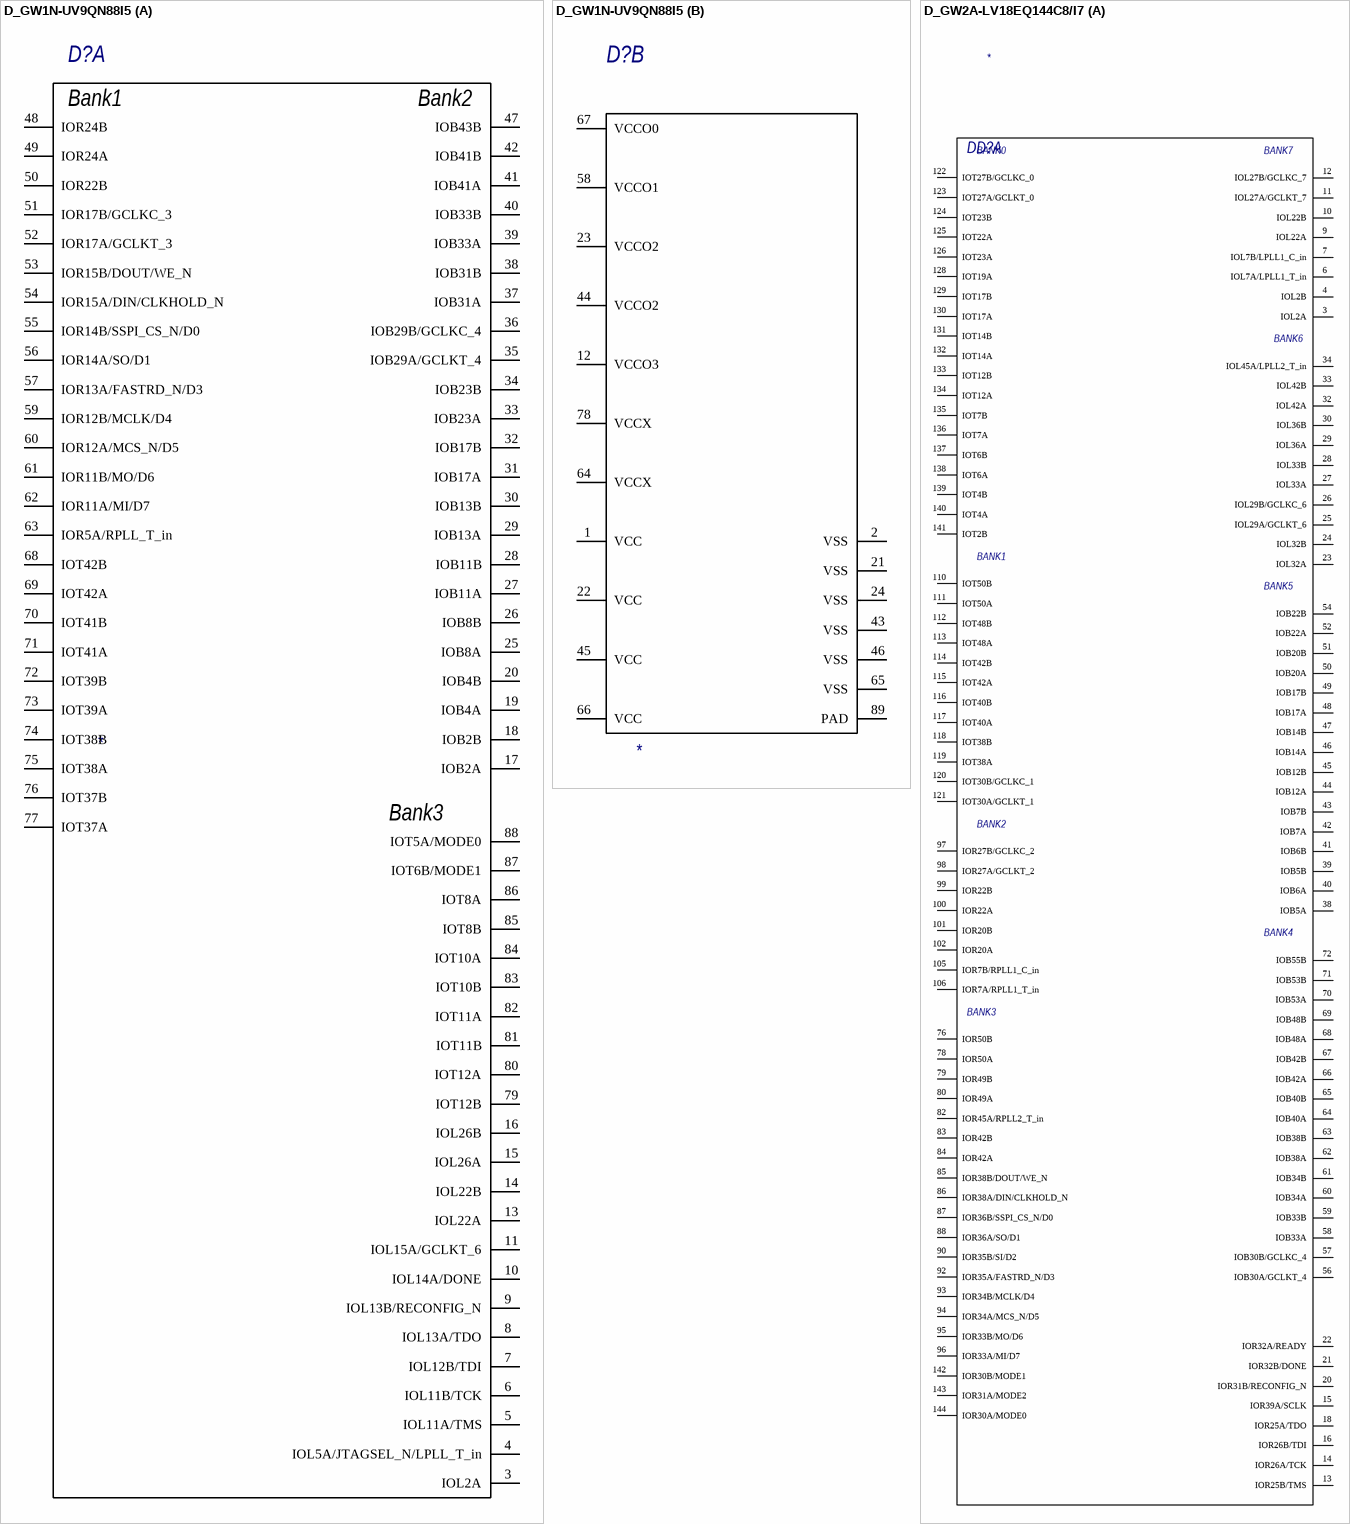
[diagram p5: symbols D_GW1N-UV9QN88I5 to D_GW2A-LV18EQ144C8/I7]

## D_GW1N-UV9QN88I5
designator D?
MPN: *
part A pins: 3 IOL2A, 4 IOL5A/JTAGSEL_N/LPLL_T_in, 5 IOL11A/TMS, 6 IOL11B/TCK, 7 IOL12B/TDI, 8 IOL13A/TDO, 9 IOL13B/RECONFIG_N, 10 IOL14A/DONE, 11 IOL15A/GCLKT_6, 13 IOL22A, 14 IOL22B, 15 IOL26A, 16 IOL26B, 17 IOB2A, 18 IOB2B, 19 IOB4A, 20 IOB4B, 25 IOB8A, 26 IOB8B, 27 IOB11A, 28 IOB11B, 29 IOB13A, 30 IOB13B, 31 IOB17A, 32 IOB17B, 33 IOB23A, 34 IOB23B, 35 IOB29A/GCLKT_4, 36 IOB29B/GCLKC_4, 37 IOB31A, 38 IOB31B, 39 IOB33A, 40 IOB33B, 41 IOB41A, 42 IOB41B, 47 IOB43B, 48 IOR24B, 49 IOR24A, 50 IOR22B, 51 IOR17B/GCLKC_3, 52 IOR17A/GCLKT_3, 53 IOR15B/DOUT/WE_N, 54 IOR15A/DIN/CLKHOLD_N, 55 IOR14B/SSPI_CS_N/D0, 56 IOR14A/SO/D1, 57 IOR13A/FASTRD_N/D3, 59 IOR12B/MCLK/D4, 60 IOR12A/MCS_N/D5, 61 IOR11B/MO/D6, 62 IOR11A/MI/D7, 63 IOR5A/RPLL_T_in, 68 IOT42B, 69 IOT42A, 70 IOT41B, 71 IOT41A, 72 IOT39B, 73 IOT39A, 74 IOT38B, 75 IOT38A, 76 IOT37B, 77 IOT37A, 79 IOT12B, 80 IOT12A, 81 IOT11B, 82 IOT11A, 83 IOT10B, 84 IOT10A, 85 IOT8B, 86 IOT8A, 87 IOT6B/MODE1, 88 IOT5A/MODE0
part B pins: 1 VCC, 2 VSS, 12 VCCO3, 21 VSS, 22 VCC, 23 VCCO2, 24 VSS, 43 VSS, 44 VCCO2, 45 VCC, 46 VSS, 58 VCCO1, 64 VCCX, 65 VSS, 66 VCC, 67 VCCO0, 78 VCCX, 89 PAD
part A text: Bank1; Bank2; Bank3

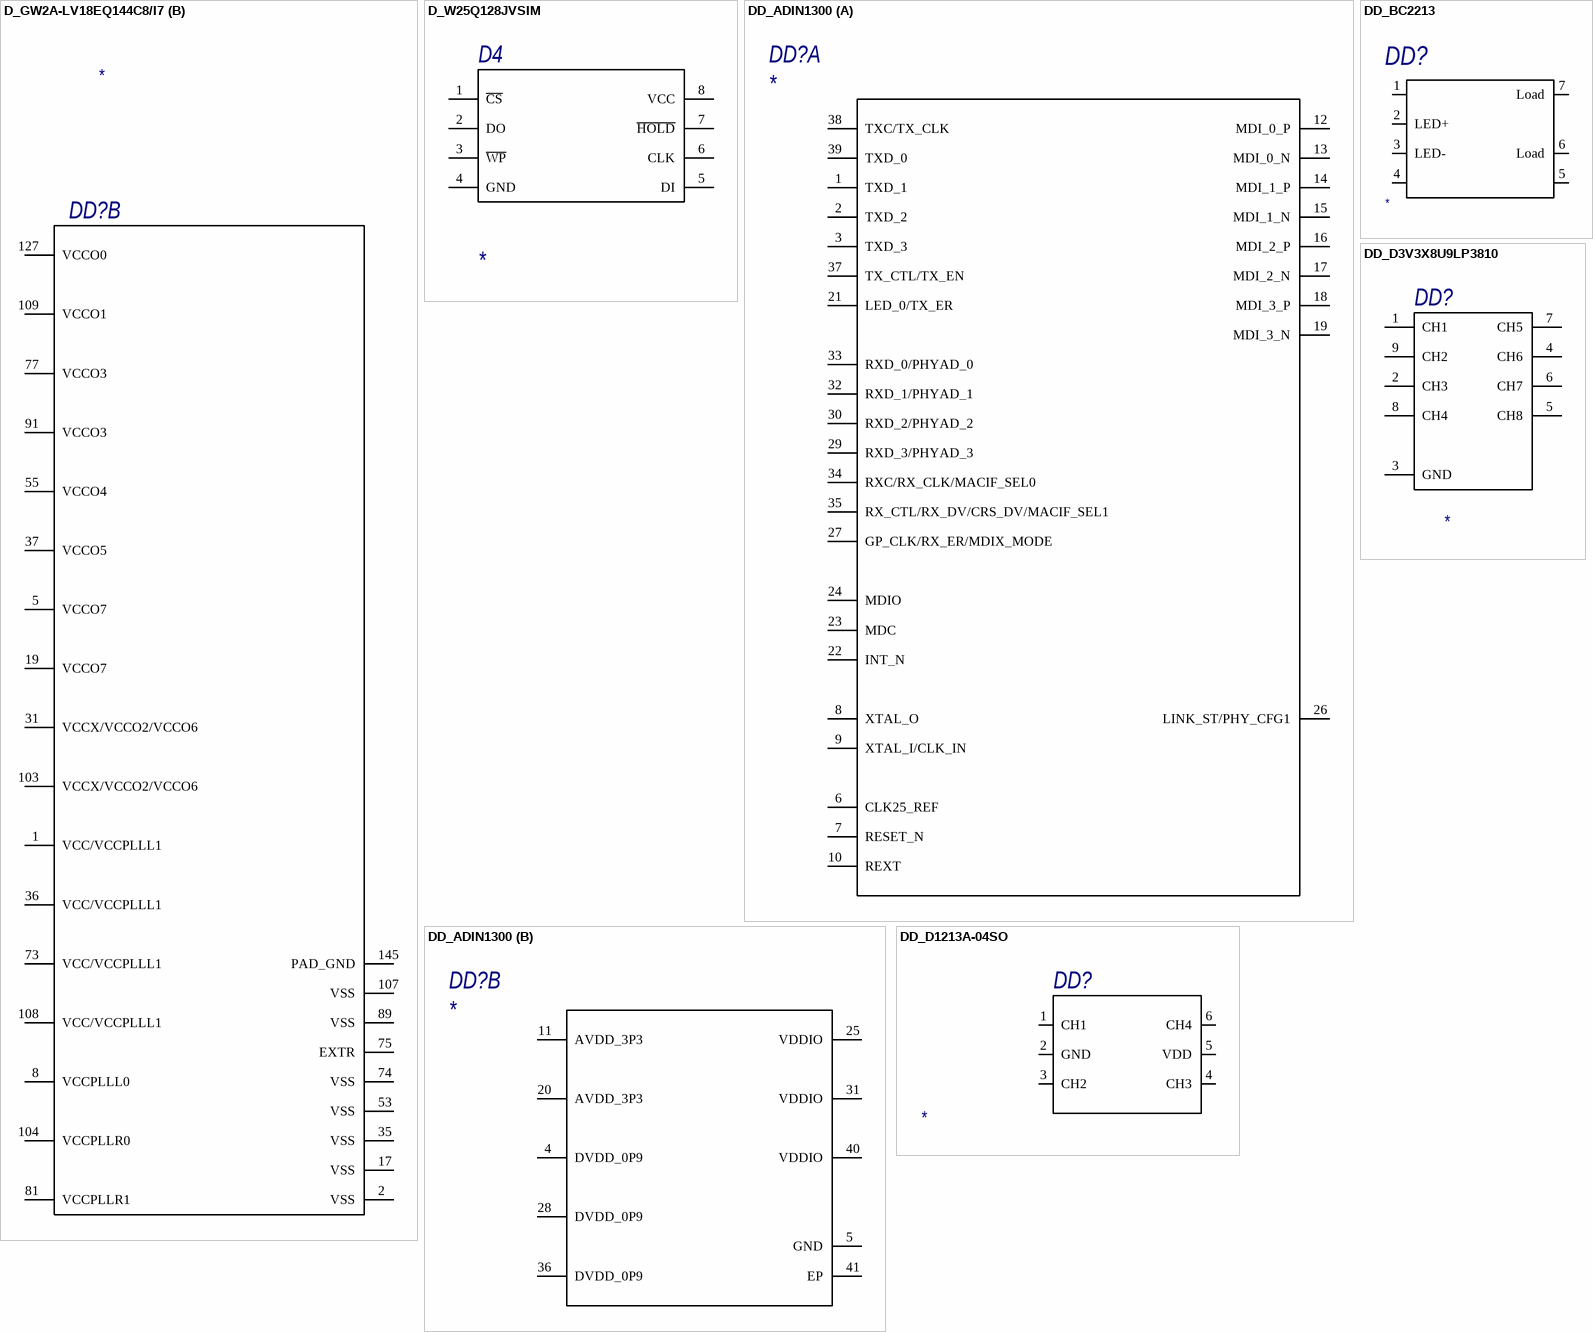
[diagram p6: symbols D_GW2A-LV18EQ144C8/I7 to DD_D1213A-04SO]

## D_GW2A-LV18EQ144C8/I7
designator DD?
MPN: *
part A pins: 3 IOL2A, 4 IOL2B, 6 IOL7A/LPLL1_T_in, 7 IOL7B/LPLL1_C_in, 9 IOL22A, 10 IOL22B, 11 IOL27A/GCLKT_7, 12 IOL27B/GCLKC_7, 13 IOR25B/TMS, 14 IOR26A/TCK, 15 IOR39A/SCLK, 16 IOR26B/TDI, 18 IOR25A/TDO, 20 IOR31B/RECONFIG_N, 21 IOR32B/DONE, 22 IOR32A/READY, 23 IOL32A, 24 IOL32B, 25 IOL29A/GCLKT_6, 26 IOL29B/GCLKC_6, 27 IOL33A, 28 IOL33B, 29 IOL36A, 30 IOL36B, 32 IOL42A, 33 IOL42B, 34 IOL45A/LPLL2_T_in, 38 IOB5A, 39 IOB5B, 40 IOB6A, 41 IOB6B, 42 IOB7A, 43 IOB7B, 44 IOB12A, 45 IOB12B, 46 IOB14A, 47 IOB14B, 48 IOB17A, 49 IOB17B, 50 IOB20A, 51 IOB20B, 52 IOB22A, 54 IOB22B, 56 IOB30A/GCLKT_4, 57 IOB30B/GCLKC_4, 58 IOB33A, 59 IOB33B, 60 IOB34A, 61 IOB34B, 62 IOB38A, 63 IOB38B, 64 IOB40A, 65 IOB40B, 66 IOB42A, 67 IOB42B, 68 IOB48A, 69 IOB48B, 70 IOB53A, 71 IOB53B, 72 IOB55B, 76 IOR50B, 78 IOR50A, 79 IOR49B, 80 IOR49A, 82 IOR45A/RPLL2_T_in, 83 IOR42B, 84 IOR42A, 85 IOR38B/DOUT/WE_N, 86 IOR38A/DIN/CLKHOLD_N, 87 IOR36B/SSPI_CS_N/D0, 88 IOR36A/SO/D1, 90 IOR35B/SI/D2, 92 IOR35A/FASTRD_N/D3, 93 IOR34B/MCLK/D4, 94 IOR34A/MCS_N/D5, 95 IOR33B/MO/D6, 96 IOR33A/MI/D7, 97 IOR27B/GCLKC_2, 98 IOR27A/GCLKT_2, 99 IOR22B, 100 IOR22A, 101 IOR20B, 102 IOR20A, 105 IOR7B/RPLL1_C_in, 106 IOR7A/RPLL1_T_in, 110 IOT50B, 111 IOT50A, 112 IOT48B, 113 IOT48A, 114 IOT42B, 115 IOT42A, 116 IOT40B, 117 IOT40A, 118 IOT38B, 119 IOT38A, 120 IOT30B/GCLKC_1, 121 IOT30A/GCLKT_1, 122 IOT27B/GCLKC_0, 123 IOT27A/GCLKT_0, 124 IOT23B, 125 IOT22A, 126 IOT23A, 128 IOT19A, 129 IOT17B, 130 IOT17A, 131 IOT14B, 132 IOT14A, 133 IOT12B, 134 IOT12A, 135 IOT7B, 136 IOT7A, 137 IOT6B, 138 IOT6A, 139 IOT4B, 140 IOT4A, 141 IOT2B, 142 IOR30B/MODE1, 143 IOR31A/MODE2, 144 IOR30A/MODE0
part B pins: 1 VCC/VCCPLLL1, 2 VSS, 5 VCCO7, 8 VCCPLLL0, 17 VSS, 19 VCCO7, 31 VCCX/VCCO2/VCCO6, 35 VSS, 36 VCC/VCCPLLL1, 37 VCCO5, 53 VSS, 55 VCCO4, 73 VCC/VCCPLLL1, 74 VSS, 75 EXTR, 77 VCCO3, 81 VCCPLLR1, 89 VSS, 91 VCCO3, 103 VCCX/VCCO2/VCCO6, 104 VCCPLLR0, 107 VSS, 108 VCC/VCCPLLL1, 109 VCCO1, 127 VCCO0, 145 PAD_GND
part A text: BANK0; BANK7; BANK6; BANK1; BANK5; BANK2; BANK4; BANK3

## D_W25Q128JVSIM
designator D4
MPN: *
pins: 1 ~{CS}, 2 DO, 3 ~{WP}, 4 GND, 5 DI, 6 CLK, 7 ~{HOLD}, 8 VCC

## DD_ADIN1300
designator DD?
MPN: *
part A pins: 1 TXD_1, 2 TXD_2, 3 TXD_3, 6 CLK25_REF, 7 RESET_N, 8 XTAL_O, 9 XTAL_I/CLK_IN, 10 REXT, 12 MDI_0_P, 13 MDI_0_N, 14 MDI_1_P, 15 MDI_1_N, 16 MDI_2_P, 17 MDI_2_N, 18 MDI_3_P, 19 MDI_3_N, 21 LED_0/TX_ER, 22 INT_N, 23 MDC, 24 MDIO, 26 LINK_ST/PHY_CFG1, 27 GP_CLK/RX_ER/MDIX_MODE, 29 RXD_3/PHYAD_3, 30 RXD_2/PHYAD_2, 32 RXD_1/PHYAD_1, 33 RXD_0/PHYAD_0, 34 RXC/RX_CLK/MACIF_SEL0, 35 RX_CTL/RX_DV/CRS_DV/MACIF_SEL1, 37 TX_CTL/TX_EN, 38 TXC/TX_CLK, 39 TXD_0
part B pins: 4 DVDD_0P9, 5 GND, 11 AVDD_3P3, 20 AVDD_3P3, 25 VDDIO, 28 DVDD_0P9, 31 VDDIO, 36 DVDD_0P9, 40 VDDIO, 41 EP

## DD_BC2213
designator DD?
MPN: *
pins: 1, 2 LED+, 3 LED-, 4, 5, 6 Load, 7 Load

## DD_D3V3X8U9LP3810
designator DD?
MPN: *
pins: 1 CH1, 2 CH3, 3 GND, 4 CH6, 5 CH8, 6 CH7, 7 CH5, 8 CH4, 9 CH2

## DD_D1213A-04SO
designator DD?
MPN: *
pins: 1 CH1, 2 GND, 3 CH2, 4 CH3, 5 VDD, 6 CH4

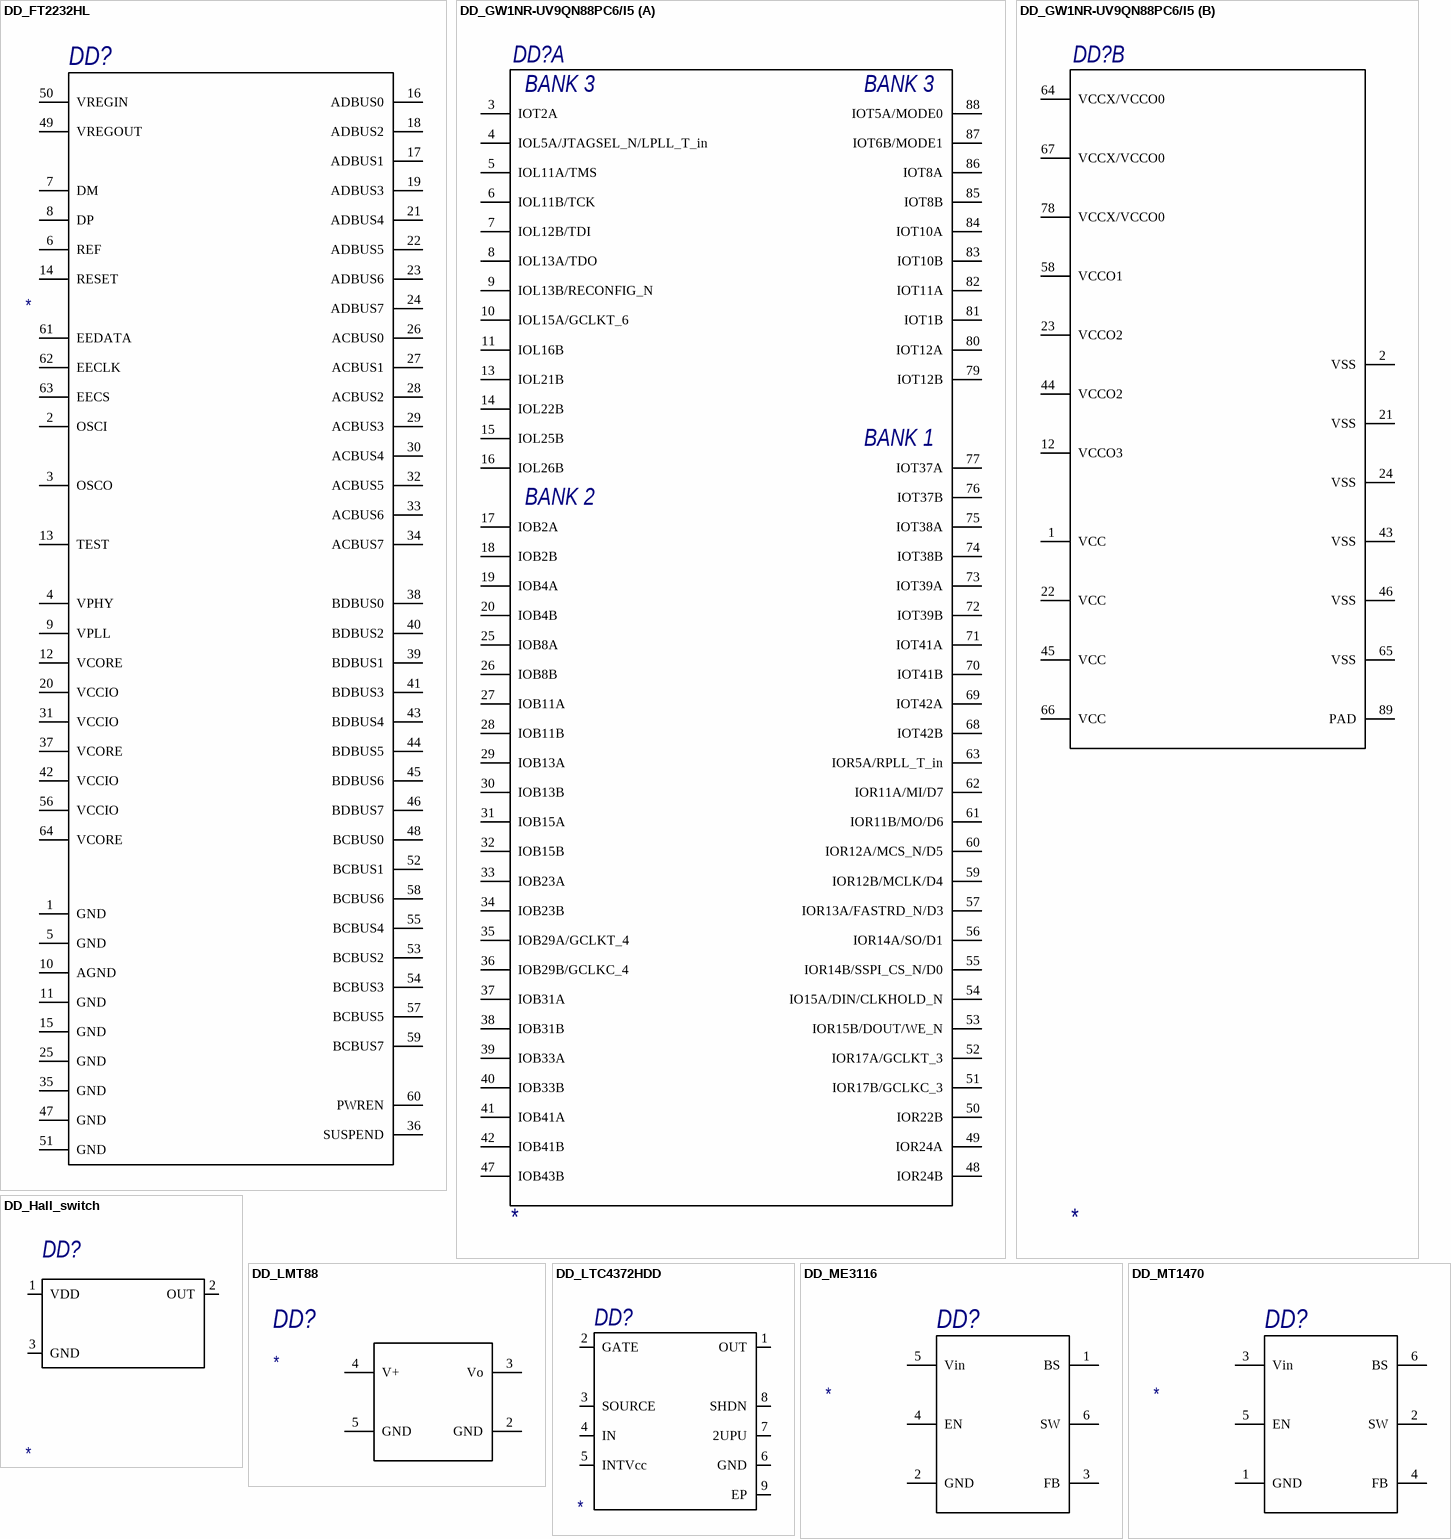
[diagram p7: symbols DD_FT2232HL to DD_MT1470]

## DD_FT2232HL
designator DD?
MPN: *
pins: 1 GND, 2 OSCI, 3 OSCO, 4 VPHY, 5 GND, 6 REF, 7 DM, 8 DP, 9 VPLL, 10 AGND, 11 GND, 12 VCORE, 13 TEST, 14 RESET, 15 GND, 16 ADBUS0, 17 ADBUS1, 18 ADBUS2, 19 ADBUS3, 20 VCCIO, 21 ADBUS4, 22 ADBUS5, 23 ADBUS6, 24 ADBUS7, 25 GND, 26 ACBUS0, 27 ACBUS1, 28 ACBUS2, 29 ACBUS3, 30 ACBUS4, 31 VCCIO, 32 ACBUS5, 33 ACBUS6, 34 ACBUS7, 35 GND, 36 SUSPEND, 37 VCORE, 38 BDBUS0, 39 BDBUS1, 40 BDBUS2, 41 BDBUS3, 42 VCCIO, 43 BDBUS4, 44 BDBUS5, 45 BDBUS6, 46 BDBUS7, 47 GND, 48 BCBUS0, 49 VREGOUT, 50 VREGIN, 51 GND, 52 BCBUS1, 53 BCBUS2, 54 BCBUS3, 55 BCBUS4, 56 VCCIO, 57 BCBUS5, 58 BCBUS6, 59 BCBUS7, 60 PWREN, 61 EEDATA, 62 EECLK, 63 EECS, 64 VCORE

## DD_GW1NR-UV9QN88PC6/I5
designator DD?
ComponentLink1Description: Datasheet; MPN: *
part A pins: 3 IOT2A "x16", 4 IOL5A/JTAGSEL_N/LPLL_T_in, 5 IOL11A/TMS, 6 IOL11B/TCK, 7 IOL12B/TDI, 8 IOL13A/TDO, 9 IOL13B/RECONFIG_N, 10 IOL15A/GCLKT_6, 11 IOL16B, 13 IOL21B, 14 IOL22B, 15 IOL25B, 16 IOL26B, 17 IOB2A, 18 IOB2B, 19 IOB4A, 20 IOB4B, 25 IOB8A, 26 IOB8B, 27 IOB11A, 28 IOB11B, 29 IOB13A, 30 IOB13B, 31 IOB15A, 32 IOB15B, 33 IOB23A, 34 IOB23B, 35 IOB29A/GCLKT_4, 36 IOB29B/GCLKC_4, 37 IOB31A, 38 IOB31B, 39 IOB33A, 40 IOB33B, 41 IOB41A, 42 IOB41B, 47 IOB43B, 48 IOR24B, 49 IOR24A, 50 IOR22B, 51 IOR17B/GCLKC_3, 52 IOR17A/GCLKT_3, 53 IOR15B/DOUT/WE_N, 54 IO15A/DIN/CLKHOLD_N, 55 IOR14B/SSPI_CS_N/D0, 56 IOR14A/SO/D1, 57 IOR13A/FASTRD_N/D3, 59 IOR12B/MCLK/D4, 60 IOR12A/MCS_N/D5, 61 IOR11B/MO/D6, 62 IOR11A/MI/D7, 63 IOR5A/RPLL_T_in, 68 IOT42B, 69 IOT42A, 70 IOT41B, 71 IOT41A, 72 IOT39B, 73 IOT39A, 74 IOT38B, 75 IOT38A, 76 IOT37B, 77 IOT37A, 79 IOT12B, 80 IOT12A, 81 IOT1B, 82 IOT11A, 83 IOT10B, 84 IOT10A, 85 IOT8B, 86 IOT8A, 87 IOT6B/MODE1, 88 IOT5A/MODE0
part B pins: 1 VCC (power), 2 VSS (power), 12 VCCO3 (power), 21 VSS (power), 22 VCC (power), 23 VCCO2 (power), 24 VSS (power), 43 VSS (power), 44 VCCO2 (power), 45 VCC (power), 46 VSS (power), 58 VCCO1 (power), 64 VCCX/VCCO0 (power), 65 VSS (power), 66 VCC (power), 67 VCCX/VCCO0 (power), 78 VCCX/VCCO0 (power), 89 PAD
part A text: BANK 3; BANK 1; BANK 2

## DD_Hall_switch
designator DD?
MPN: *
pins: 1 VDD, 2 OUT, 3 GND

## DD_LMT88
designator DD?
MPN: *
pins: 2 GND, 3 Vo, 4 V+, 5 GND

## DD_LTC4372HDD
designator DD?
MPN: *
pins: 1 OUT, 2 GATE, 3 SOURCE, 4 IN, 5 INTVcc, 6 GND, 7 2UPU, 8 SHDN, 9 EP

## DD_ME3116
designator DD?
MPN: *
pins: 1 BS, 2 GND, 3 FB, 4 EN, 5 Vin, 6 SW

## DD_MT1470
designator DD?
MPN: *
pins: 1 GND, 2 SW, 3 Vin, 4 FB, 5 EN, 6 BS

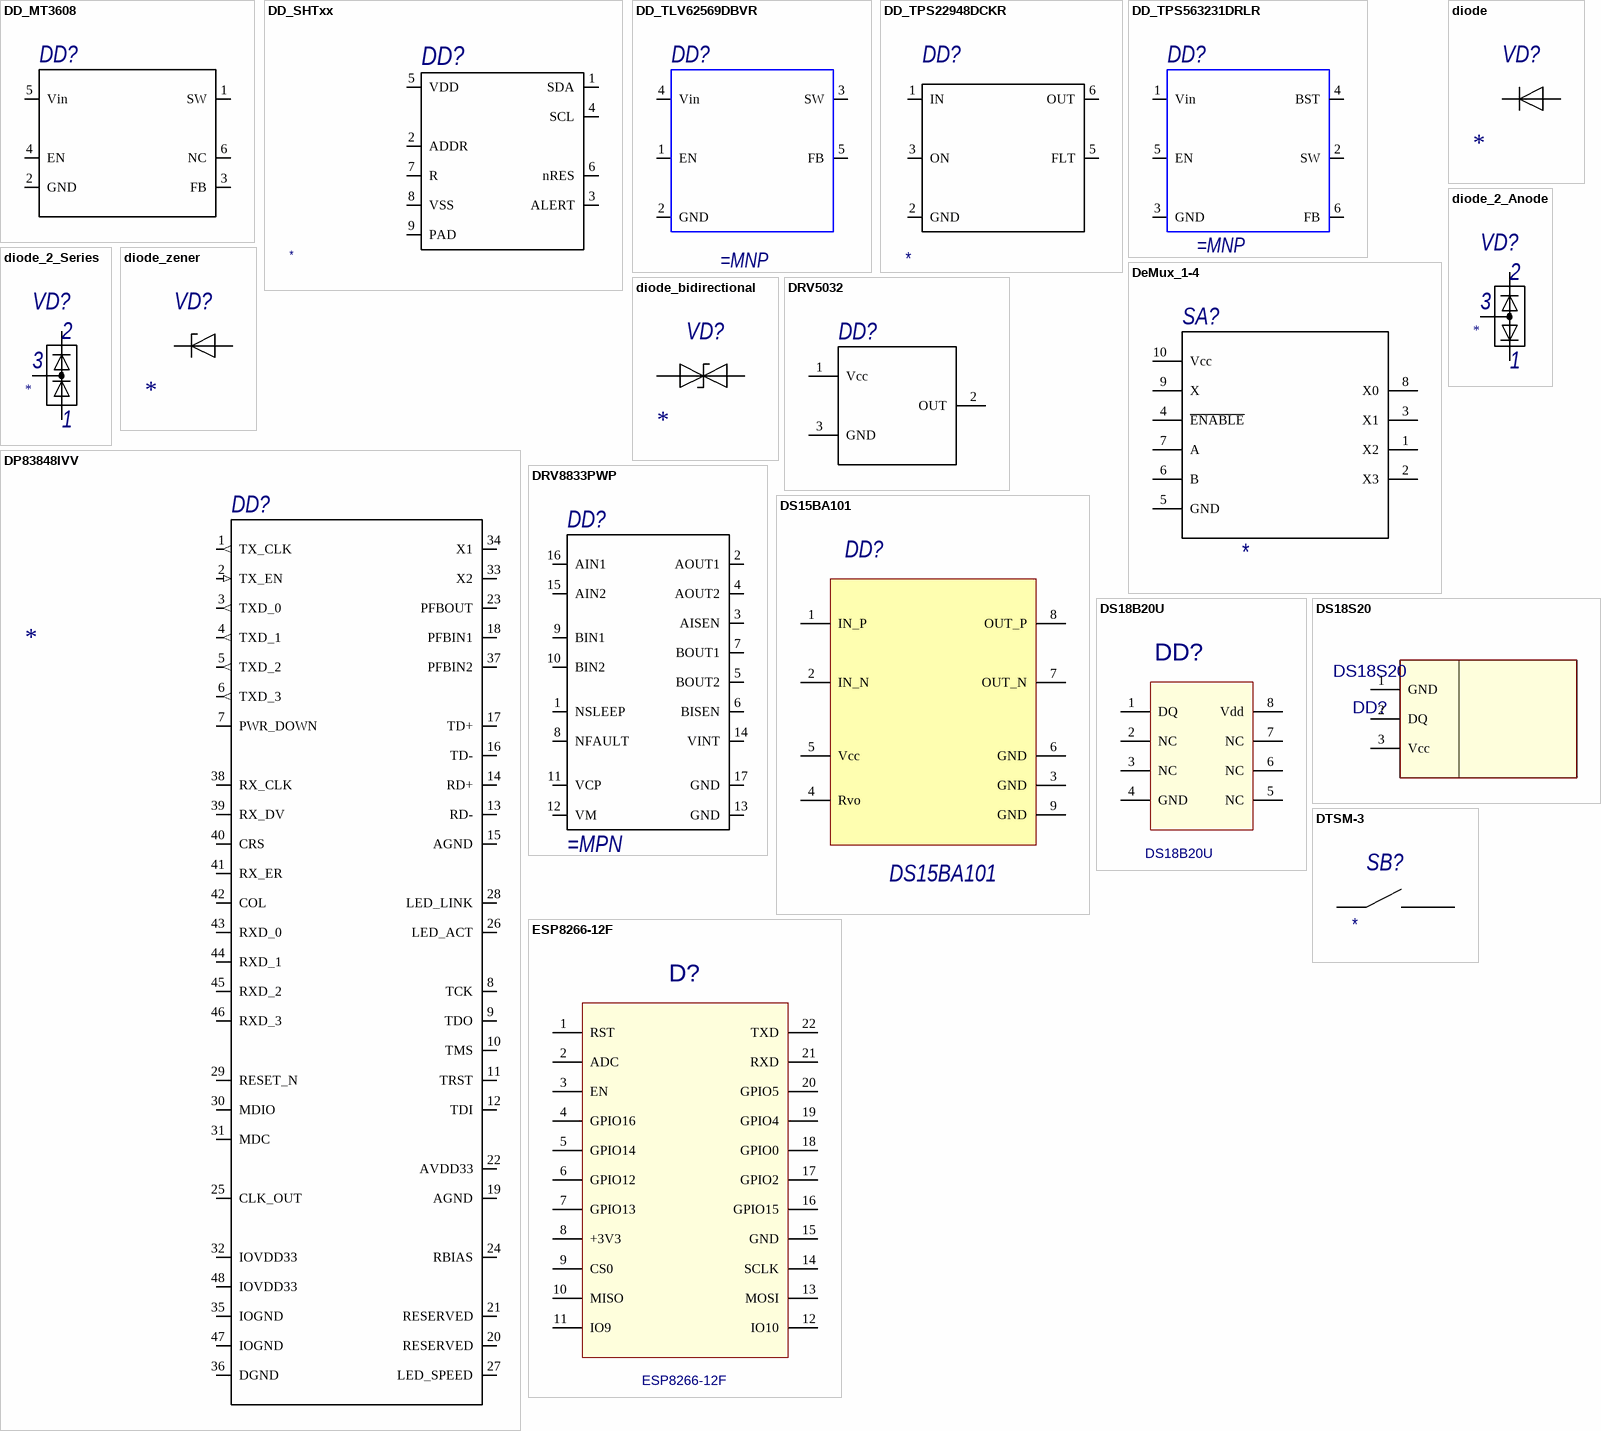
[diagram p8: symbols DD_MT3608 to ESP8266-12F]

## DD_MT3608
designator DD?
pins: 1 SW (power), 2 GND (power), 3 FB, 4 EN, 5 Vin (power), 6 NC (power)

## DD_SHTxx
designator DD?
MPN: *
pins: 1 SDA, 2 ADDR, 3 ALERT, 4 SCL, 5 VDD, 6 nRES, 7 R, 8 VSS, 9 PAD

## DD_TLV62569DBVR
designator DD?
pins: 1 EN, 2 GND, 3 SW, 4 Vin, 5 FB

## DD_TPS22948DCKR
designator DD?
MPN: *
pins: 1 IN, 2 GND, 3 ON, 5 FLT, 6 OUT

## DD_TPS563231DRLR
designator DD?
pins: 1 Vin, 2 SW, 3 GND, 4 BST, 5 EN, 6 FB

## DeMux_1-4
designator SA?
MPN: *
pins: 1 X2 "Analog Switch Normally Open Inputs 2.", 2 X3 "Analog Switch Normally Open Inputs 3.", 3 X1 "Analog Switch Normally Open Inputs 1.", 4 ~{ENABLE} "Inhibit. Drive ENABLE low or connect to GND for normal operation.  Drive ENABLE high or connect to VCC to turn all switches off.", 5 GND "Ground.", 6 B "Digital Address “B” Input.", 7 A "Digital Address “A” Input.", 8 X0 "Analog Switch Normally Open Inputs 0.", 9 X "Analog Switch Common.", 10 Vcc "Positive Analog and Digital Supply Voltage"

## diode
designator VD?
pins: 1, 2

## diode_2_Anode
designator VD?
pins: 1, 2, 3

## diode_2_Series
designator VD?
pins: 1, 2, 3

## diode_bidirectional
designator VD?
pins: 1, 2

## diode_zener
designator VD?
pins: 1, 2

## DP83848IVV
designator DD?
pins: 1 TX_CLK (out), 2 TX_EN (in), 3 TXD_0 (out), 4 TXD_1 (out), 5 TXD_2 (out), 6 TXD_3 (out), 7 PWR_DOWN, 8 TCK, 9 TDO, 10 TMS, 11 TRST, 12 TDI, 13 RD-, 14 RD+, 15 AGND, 16 TD-, 17 TD+, 18 PFBIN1, 19 AGND, 20 RESERVED, 21 RESERVED, 22 AVDD33, 23 PFBOUT, 24 RBIAS, 25 CLK_OUT, 26 LED_ACT, 27 LED_SPEED, 28 LED_LINK, 29 RESET_N, 30 MDIO, 31 MDC, 32 IOVDD33, 33 X2, 34 X1, 35 IOGND, 36 DGND, 37 PFBIN2, 38 RX_CLK, 39 RX_DV, 40 CRS, 41 RX_ER, 42 COL, 43 RXD_0, 44 RXD_1, 45 RXD_2, 46 RXD_3, 47 IOGND, 48 IOVDD33

## DRV5032
designator DD?  (value not drawn)
pins: 1 Vcc, 2 OUT, 3 GND

## DRV8833PWP
designator DD?
pins: 1 NSLEEP "Sleep mode input", 2 AOUT1 "Bridge A output 1", 3 AISEN "Bridge A ground / Isense", 4 AOUT2 "Bridge A output 2", 5 BOUT2 "Bridge B output 2", 6 BISEN "Bridge B ground / Isense", 7 BOUT1 "Bridge B output 1", 8 NFAULT "Fault output", 9 BIN1 "Bridge B input 1", 10 BIN2 "Bridge B input 2", 11 VCP "High-side gate drive voltage", 12 VM "Device power supply", 13 GND "Device ground", 14 VINT "Internal supply bypass", 15 AIN2 "Bridge A input 2", 16 AIN1 "Bridge A input 1", 17 GND "Device ground"

## DS15BA101
designator DD?
pins: 1 IN_P, 2 IN_N, 3 GND, 4 Rvo, 5 Vcc, 6 GND, 7 OUT_N, 8 OUT_P, 9 GND

## DS18B20U
designator DD?
MntType: SMD; BOMDescription: SMD TEMPERATURE SENSOR MSOP-8     DS18B20U; MPN: DS18B20U; MSL: MSL 1; Package: MSOP-8; RoHS: Comply; PartType: TEMPERATURE SENSOR; Pins: 8
footprint MSOP-8
pins: 1 DQ, 2 NC, 3 NC, 4 GND, 5 NC, 6 NC, 7 NC, 8 Vdd

## DS18S20
designator DD?
MntType: DIP; BOMDescription: DIP TEMPERATURE SENSOR TO-92_Primary     DS18S20; MPN: DS18S20; MSL: MSL 1; Package: TO-92_Primary; RoHS: Comply; PartType: TEMPERATURE SENSOR; Pins: 3
footprint TO-92_Primary
footprint TO-92_g
footprint TO-92_gl
pins: 1 GND, 2 DQ, 3 Vcc

## DTSM-3
designator SB?
MPN: *
pins: 1, 2

## ESP8266-12F
designator D?
MntType: SMD; BOMDescription: SMD ESP8266 MODULE ESP8266-12F     ESP8266-12F; MPN: ESP8266-12F; MSL: MSL 1; Package: ESP8266-12F; RoHS: Comply; PartType: ESP8266 MODULE
footprint ESP8266-12F
pins: 1 RST, 2 ADC, 3 EN, 4 GPIO16, 5 GPIO14, 6 GPIO12, 7 GPIO13, 8 +3V3, 9 CS0, 10 MISO, 11 IO9, 12 IO10, 13 MOSI, 14 SCLK, 15 GND, 16 GPIO15, 17 GPIO2, 18 GPIO0, 19 GPIO4, 20 GPIO5, 21 RXD, 22 TXD

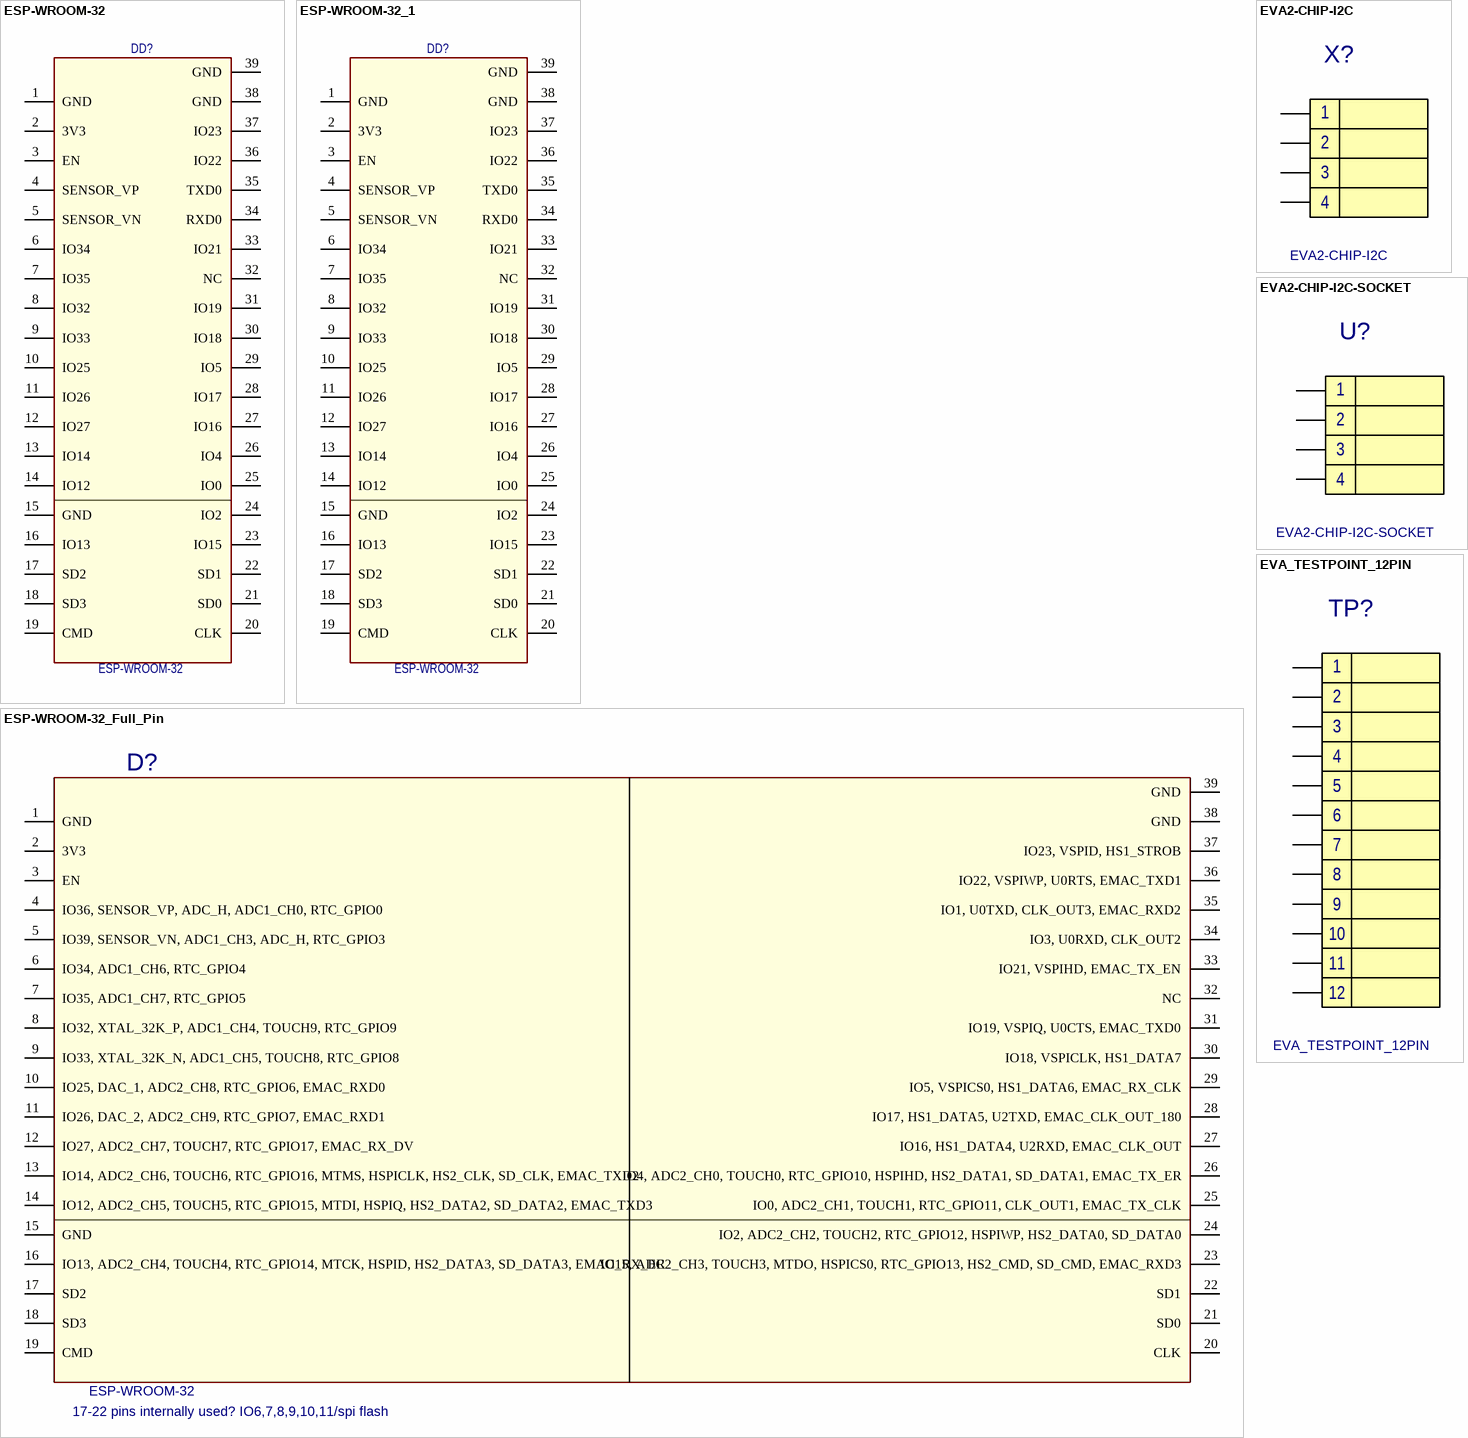
[diagram p9: symbols ESP-WROOM-32 to EVA_TESTPOINT_12PIN]

## ESP-WROOM-32
designator DD?
MntType: SMD; BOMDescription: SMD ESP-WROOM-32 MODULE ESP-WROOM-32     ESP-WROOM-32; MSL: MSL 1; Package: ESP-WROOM-32; RoHS: Comply; PartType: ESP-WROOM-32 MODULE; MPN: ESP-WROOM-32
footprint ESP-WROOM-32
pins: 1 GND, 2 3V3, 3 EN, 4 SENSOR_VP, 5 SENSOR_VN, 6 IO34, 7 IO35, 8 IO32, 9 IO33, 10 IO25, 11 IO26, 12 IO27, 13 IO14, 14 IO12, 15 GND, 16 IO13, 17 SD2, 18 SD3, 19 CMD, 20 CLK, 21 SD0, 22 SD1, 23 IO15, 24 IO2, 25 IO0, 26 IO4, 27 IO16, 28 IO17, 29 IO5, 30 IO18, 31 IO19, 32 NC, 33 IO21, 34 RXD0, 35 TXD0, 36 IO22, 37 IO23, 38 GND, 39 GND

## ESP-WROOM-32_1
designator DD?, comment ESP-WROOM-32
MntType: SMD; BOMDescription: SMD ESP-WROOM-32 MODULE ESP-WROOM-32     ESP-WROOM-32; MSL: MSL 1; Package: ESP-WROOM-32; RoHS: Comply; PartType: ESP-WROOM-32 MODULE; MPN: ESP-WROOM-32
footprint ESP-WROOM-32
pins: 1 GND, 2 3V3, 3 EN, 4 SENSOR_VP, 5 SENSOR_VN, 6 IO34, 7 IO35, 8 IO32, 9 IO33, 10 IO25, 11 IO26, 12 IO27, 13 IO14, 14 IO12, 15 GND, 16 IO13, 17 SD2, 18 SD3, 19 CMD, 20 CLK, 21 SD0, 22 SD1, 23 IO15, 24 IO2, 25 IO0, 26 IO4, 27 IO16, 28 IO17, 29 IO5, 30 IO18, 31 IO19, 32 NC, 33 IO21, 34 RXD0, 35 TXD0, 36 IO22, 37 IO23, 38 GND, 39 GND

## ESP-WROOM-32_Full_Pin
designator D?, comment ESP-WROOM-32
MntType: SMD; BOMDescription: SMD ESP-WROOM-32 MODULE ESP-WROOM-32     ESP-WROOM-32; MPN: ESP-WROOM-32; MSL: MSL 1; Package: ESP-WROOM-32; RoHS: Comply; PartType: ESP-WROOM-32 MODULE
footprint ESP-WROOM-32
pins: 1 GND, 2 3V3, 3 EN, 4 IO36, SENSOR_VP, ADC_H, ADC1_CH0, RTC_GPIO0, 5 IO39, SENSOR_VN, ADC1_CH3, ADC_H, RTC_GPIO3, 6 IO34, ADC1_CH6, RTC_GPIO4, 7 IO35, ADC1_CH7, RTC_GPIO5, 8 IO32, XTAL_32K_P, ADC1_CH4, TOUCH9, RTC_GPIO9  , 9 IO33, XTAL_32K_N, ADC1_CH5, TOUCH8, RTC_GPIO8, 10 IO25, DAC_1, ADC2_CH8, RTC_GPIO6, EMAC_RXD0, 11 IO26, DAC_2, ADC2_CH9, RTC_GPIO7, EMAC_RXD1, 12 IO27, ADC2_CH7, TOUCH7, RTC_GPIO17, EMAC_RX_DV, 13 IO14, ADC2_CH6, TOUCH6, RTC_GPIO16, MTMS, HSPICLK, HS2_CLK, SD_CLK, EMAC_TXD2, 14 IO12, ADC2_CH5, TOUCH5, RTC_GPIO15, MTDI, HSPIQ, HS2_DATA2, SD_DATA2, EMAC_TXD3, 15 GND, 16 IO13, ADC2_CH4, TOUCH4, RTC_GPIO14, MTCK, HSPID, HS2_DATA3, SD_DATA3, EMAC_RX_ER, 17 SD2, 18 SD3, 19 CMD, 20 CLK, 21 SD0, 22 SD1, 23 IO15, ADC2_CH3, TOUCH3, MTDO, HSPICS0, RTC_GPIO13, HS2_CMD, SD_CMD, EMAC_RXD3, 24 IO2, ADC2_CH2, TOUCH2, RTC_GPIO12, HSPIWP, HS2_DATA0, SD_DATA0, 25 IO0, ADC2_CH1, TOUCH1, RTC_GPIO11, CLK_OUT1, EMAC_TX_CLK, 26 IO4, ADC2_CH0, TOUCH0, RTC_GPIO10, HSPIHD, HS2_DATA1, SD_DATA1, EMAC_TX_ER, 27 IO16, HS1_DATA4, U2RXD, EMAC_CLK_OUT, 28 IO17, HS1_DATA5, U2TXD, EMAC_CLK_OUT_180, 29 IO5, VSPICS0, HS1_DATA6, EMAC_RX_CLK, 30 IO18, VSPICLK, HS1_DATA7, 31 IO19, VSPIQ, U0CTS, EMAC_TXD0, 32 NC, 33 IO21, VSPIHD, EMAC_TX_EN, 34 IO3, U0RXD, CLK_OUT2, 35 IO1, U0TXD, CLK_OUT3, EMAC_RXD2, 36 IO22, VSPIWP, U0RTS, EMAC_TXD1, 37 IO23, VSPID, HS1_STROB, 38 GND, 39 GND
text: 17-22 pins internally used? IO6,7,8,9,10,11/spi flash

## EVA2-CHIP-I2C
designator X?  (graphical)
MntType: SMD; BOMDescription: SMD CONNECTOR EVA CHIP CONNECTOR; MSL: MSL 1; Package: EVA CHIP CONNECTOR; RoHS: Comply; PartType: CONNECTOR; Pins: 4
footprint EVA2-CHIP-I2C
pins: 1, 2, 3, 4

## EVA2-CHIP-I2C-SOCKET
designator U?  (no BOM)
MntType: SMD; BOMDescription: SMD CONNECTOR EVA CHIP CONNECTOR; MSL: MSL 1; Package: EVA CHIP CONNECTOR; RoHS: Comply; PartType: CONNECTOR; Pins: 4
footprint EVA2-CHIP-I2C-SOCKET
pins: 1, 2, 3, 4

## EVA_TESTPOINT_12PIN
designator TP?  (graphical)
MntType: DIP; BOMDescription: DIP CONNECTOR; MSL: MSL 1; RoHS: Comply; PartType: CONNECTOR; Pins: 12
footprint EVA_TESTPOINT_2.54_12PIN
pins: 1, 2, 3, 4, 5, 6, 7, 8, 9, 10, 11, 12

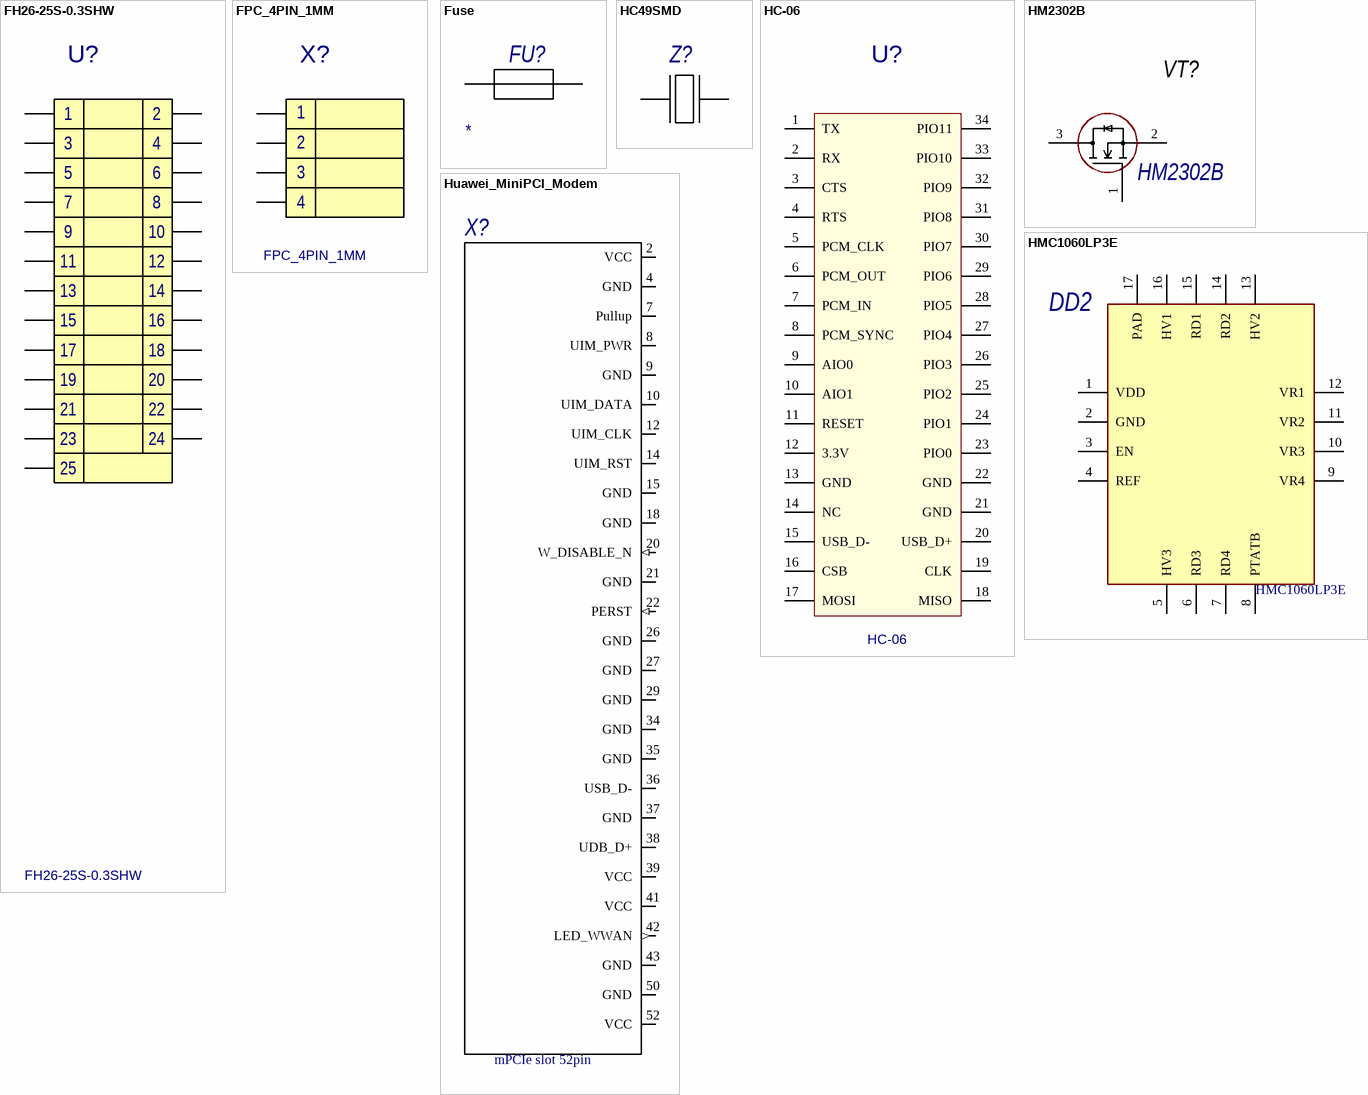
[diagram p10: symbols FH26-25S-0.3SHW to Huawei_MiniPCI_Modem]

## FH26-25S-0.3SHW
designator U?
MntType: SMD; BOMDescription: SMD CONNECTOR; MSL: MSL 1; RoHS: Comply; PartType: CONNECTOR
footprint FH26-25S-0.3SHW
pins: 1, 2, 3, 4, 5, 6, 7, 8, 9, 10, 11, 12, 13, 14, 15, 16, 17, 18, 19, 20, 21, 22, 23, 24, 25

## FPC_4PIN_1MM
designator X?
MntType: SMD; BOMDescription: SMD FPC CONNECTOR FPC 1X4; MSL: MSL 1; Package: FPC 1X4; RoHS: Comply; PartType: FPC CONNECTOR; Pins: 4
footprint FPC_4PIN_1MM
pins: 1, 2, 3, 4

## Fuse
designator FU?
Value: *
pins: 1, 2

## HC49SMD
designator Z?
MPN: HC49SMD; MntType: SMD; BOMDescription: SMD XTAL HC49SMD     HC49SMD; MSL: MSL 1; Package: HC49SMD; RoHS: Comply; PartType: XTAL; Pins: 2
footprint HC49SMD
pins: 1, 2

## HC-06
designator U?
MntType: SMD; MSL: MSL 1; RoHS: Comply; BOMDescription: SMD
footprint HC-06-34PIN
pins: 1 TX, 2 RX, 3 CTS, 4 RTS, 5 PCM_CLK, 6 PCM_OUT, 7 PCM_IN, 8 PCM_SYNC, 9 AIO0, 10 AIO1, 11 RESET, 12 3.3V (power), 13 GND, 14 NC, 15 USB_D-, 16 CSB, 17 MOSI, 18 MISO, 19 CLK, 20 USB_D+, 21 GND, 22 GND, 23 PIO0, 24 PIO1, 25 PIO2, 26 PIO3, 27 PIO4, 28 PIO5, 29 PIO6, 30 PIO7, 31 PIO8, 32 PIO9, 33 PIO10, 34 PIO11

## HM2302B
designator VT?
MPN: HM2302B
footprint SOT-23
pins: 1, 2, 3

## HMC1060LP3E
designator DD2  Manufacturer_Part_Number: HMC1060LP3E
Integrated Circuit; Manufacturer_Name: Analog Devices; Manufacturer: AD; MntType: SMD; Datasheet Link: https://componentsearchengine.com/Datasheets/2/HMC1060LP3E.pdf; Height: 1mm; Mouser Part Number: 584-HMC1060LP3E; RS Part Number: 8626281P; RS Price/Stock: http://uk.rs-online.com/web/p/products/8626281P; Part Number: HMC1060LP3E; MPN: HMC1060LP3E; MSL: MSL 1; Package: QFN16; RoHS: Comply; PartType: LDO; Pins: 17; BOMDescription: =MntType+' '+PartType+' '+Package+' '+Value+' '+Tolerance+' '+Voltage+' '+TempCoeff+' '+MPN; ClassName: LDO; ComponentLink1Description: Datasheet; ComponentLink1URL: https://www.analog.com/en/products/hmc1060.html#product-overview
pins: 1 VDD (power), 2 GND (power), 3 EN, 4 REF, 5 HV3, 6 RD3, 7 RD4, 8 PTATB, 9 VR4, 10 VR3, 11 VR2, 12 VR1, 13 HV2, 14 RD2, 15 RD1, 16 HV1, 17 PAD (power)

## Huawei_MiniPCI_Modem
designator X?, comment mPCIe slot 52pin
pins: 2 VCC (power), 4 GND (power), 7 Pullup (io), 8 UIM_PWR (power), 9 GND (power), 10 UIM_DATA (io), 12 UIM_CLK (io), 14 UIM_RST (io), 15 GND (power), 18 GND (power), 20 W_DISABLE_N (in), 21 GND (power), 22 PERST (in), 26 GND (power), 27 GND (power), 29 GND (power), 34 GND (power), 35 GND (power), 36 USB_D- (io), 37 GND (power), 38 UDB_D+ (io), 39 VCC (power), 41 VCC (power), 42 LED_WWAN (out), 43 GND (power), 50 GND (power), 52 VCC (power)

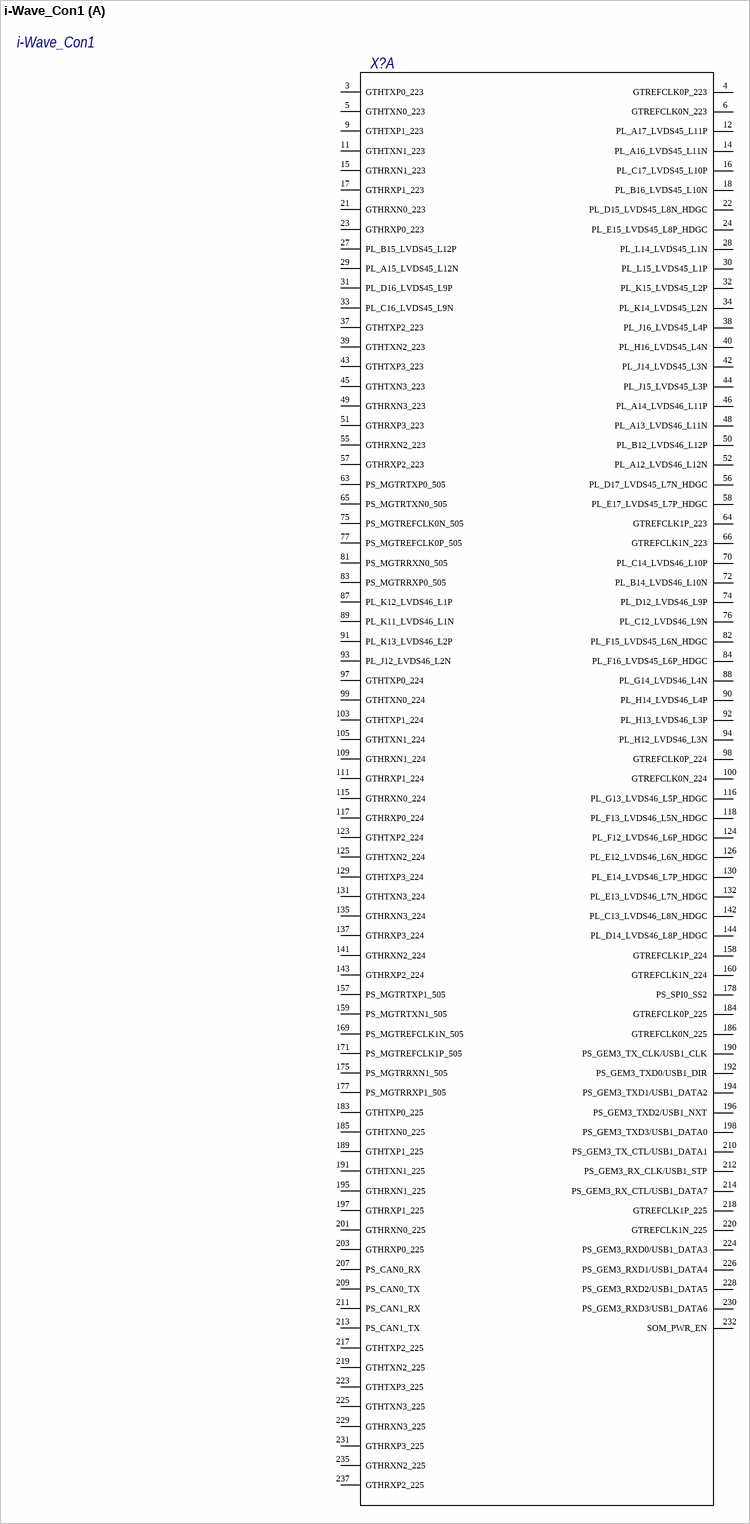
[diagram p11: symbol i-Wave_Con1]

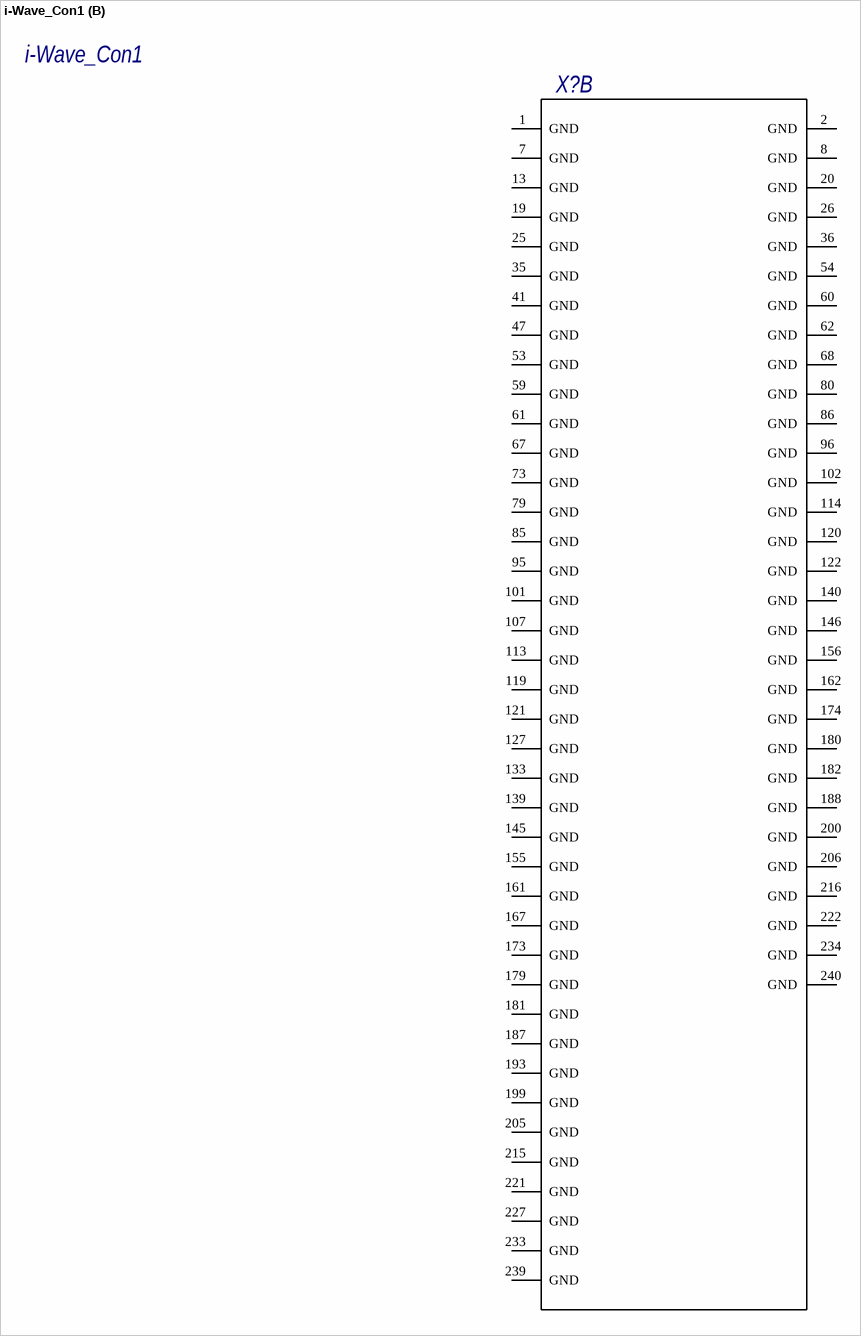
[diagram p12: symbol i-Wave_Con1]

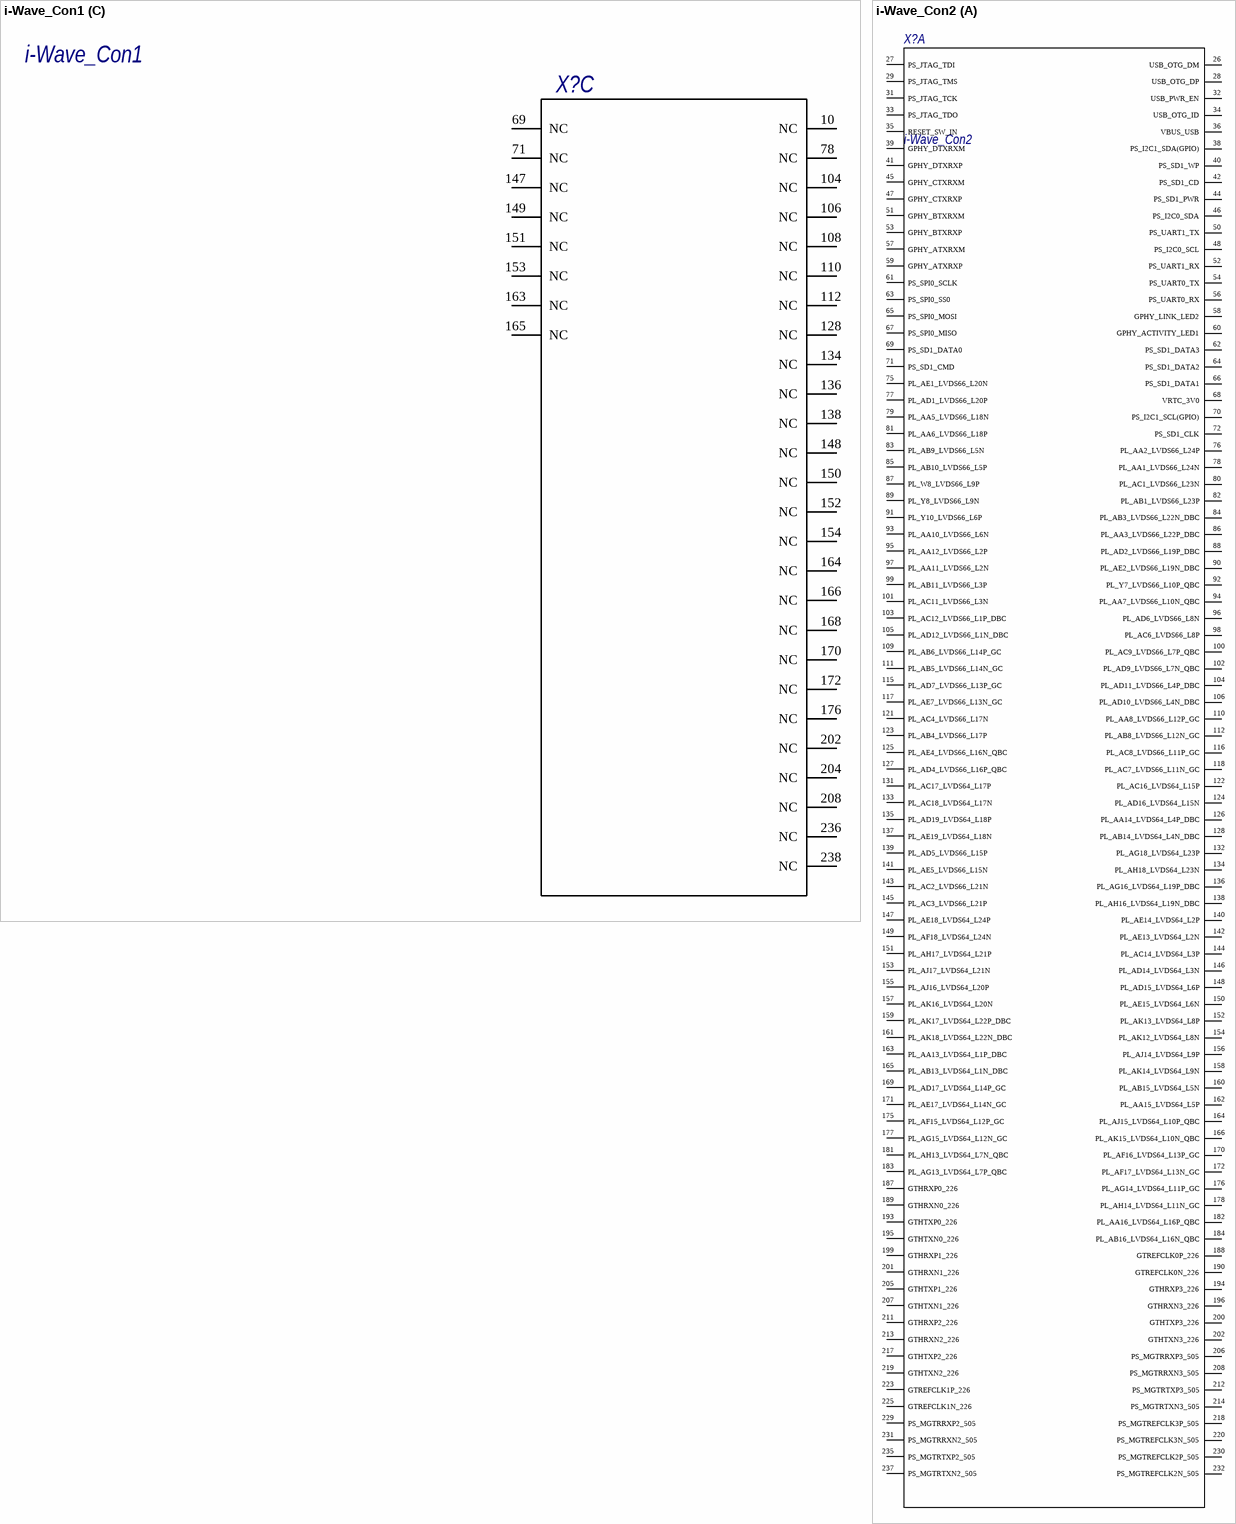
[diagram p13: symbols i-Wave_Con1 to i-Wave_Con2]

## i-Wave_Con1
designator X?
part A pins: 3 GTHTXP0_223, 4 GTREFCLK0P_223, 5 GTHTXN0_223, 6 GTREFCLK0N_223, 9 GTHTXP1_223, 11 GTHTXN1_223, 12 PL_A17_LVDS45_L11P, 14 PL_A16_LVDS45_L11N, 15 GTHRXN1_223, 16 PL_C17_LVDS45_L10P, 17 GTHRXP1_223, 18 PL_B16_LVDS45_L10N, 21 GTHRXN0_223, 22 PL_D15_LVDS45_L8N_HDGC, 23 GTHRXP0_223, 24 PL_E15_LVDS45_L8P_HDGC, 27 PL_B15_LVDS45_L12P, 28 PL_L14_LVDS45_L1N, 29 PL_A15_LVDS45_L12N, 30 PL_L15_LVDS45_L1P, 31 PL_D16_LVDS45_L9P, 32 PL_K15_LVDS45_L2P, 33 PL_C16_LVDS45_L9N, 34 PL_K14_LVDS45_L2N, 37 GTHTXP2_223, 38 PL_J16_LVDS45_L4P, 39 GTHTXN2_223, 40 PL_H16_LVDS45_L4N, 42 PL_J14_LVDS45_L3N, 43 GTHTXP3_223, 44 PL_J15_LVDS45_L3P, 45 GTHTXN3_223, 46 PL_A14_LVDS46_L11P, 48 PL_A13_LVDS46_L11N, 49 GTHRXN3_223, 50 PL_B12_LVDS46_L12P, 51 GTHRXP3_223, 52 PL_A12_LVDS46_L12N, 55 GTHRXN2_223, 56 PL_D17_LVDS45_L7N_HDGC, 57 GTHRXP2_223, 58 PL_E17_LVDS45_L7P_HDGC, 63 PS_MGTRTXP0_505, 64 GTREFCLK1P_223, 65 PS_MGTRTXN0_505, 66 GTREFCLK1N_223, 70 PL_C14_LVDS46_L10P, 72 PL_B14_LVDS46_L10N, 74 PL_D12_LVDS46_L9P, 75 PS_MGTREFCLK0N_505, 76 PL_C12_LVDS46_L9N, 77 PS_MGTREFCLK0P_505, 81 PS_MGTRRXN0_505, 82 PL_F15_LVDS45_L6N_HDGC, 83 PS_MGTRRXP0_505, 84 PL_F16_LVDS45_L6P_HDGC, 87 PL_K12_LVDS46_L1P, 88 PL_G14_LVDS46_L4N, 89 PL_K11_LVDS46_L1N, 90 PL_H14_LVDS46_L4P, 91 PL_K13_LVDS46_L2P, 92 PL_H13_LVDS46_L3P, 93 PL_J12_LVDS46_L2N, 94 PL_H12_LVDS46_L3N, 97 GTHTXP0_224, 98 GTREFCLK0P_224, 99 GTHTXN0_224, 100 GTREFCLK0N_224, 103 GTHTXP1_224, 105 GTHTXN1_224, 109 GTHRXN1_224, 111 GTHRXP1_224, 115 GTHRXN0_224, 116 PL_G13_LVDS46_L5P_HDGC, 117 GTHRXP0_224, 118 PL_F13_LVDS46_L5N_HDGC, 123 GTHTXP2_224, 124 PL_F12_LVDS46_L6P_HDGC, 125 GTHTXN2_224, 126 PL_E12_LVDS46_L6N_HDGC, 129 GTHTXP3_224, 130 PL_E14_LVDS46_L7P_HDGC, 131 GTHTXN3_224, 132 PL_E13_LVDS46_L7N_HDGC, 135 GTHRXN3_224, 137 GTHRXP3_224, 141 GTHRXN2_224, 142 PL_C13_LVDS46_L8N_HDGC, 143 GTHRXP2_224, 144 PL_D14_LVDS46_L8P_HDGC, 157 PS_MGTRTXP1_505, 158 GTREFCLK1P_224, 159 PS_MGTRTXN1_505, 160 GTREFCLK1N_224, 169 PS_MGTREFCLK1N_505, 171 PS_MGTREFCLK1P_505, 175 PS_MGTRRXN1_505, 177 PS_MGTRRXP1_505, 178 PS_SPI0_SS2, 183 GTHTXP0_225, 184 GTREFCLK0P_225, 185 GTHTXN0_225, 186 GTREFCLK0N_225, 189 GTHTXP1_225, 190 PS_GEM3_TX_CLK/USB1_CLK, 191 GTHTXN1_225, 192 PS_GEM3_TXD0/USB1_DIR, 194 PS_GEM3_TXD1/USB1_DATA2, 195 GTHRXN1_225, 196 PS_GEM3_TXD2/USB1_NXT, 197 GTHRXP1_225, 198 PS_GEM3_TXD3/USB1_DATA0, 201 GTHRXN0_225, 203 GTHRXP0_225, 207 PS_CAN0_RX, 209 PS_CAN0_TX, 210 PS_GEM3_TX_CTL/USB1_DATA1, 211 PS_CAN1_RX, 212 PS_GEM3_RX_CLK/USB1_STP, 213 PS_CAN1_TX, 214 PS_GEM3_RX_CTL/USB1_DATA7, 217 GTHTXP2_225, 218 GTREFCLK1P_225, 219 GTHTXN2_225, 220 GTREFCLK1N_225, 223 GTHTXP3_225, 224 PS_GEM3_RXD0/USB1_DATA3, 225 GTHTXN3_225, 226 PS_GEM3_RXD1/USB1_DATA4, 228 PS_GEM3_RXD2/USB1_DATA5, 229 GTHRXN3_225, 230 PS_GEM3_RXD3/USB1_DATA6, 231 GTHRXP3_225, 232 SOM_PWR_EN, 235 GTHRXN2_225, 237 GTHRXP2_225
part B pins: 1 GND, 2 GND, 7 GND, 8 GND, 13 GND, 19 GND, 20 GND, 25 GND, 26 GND, 35 GND, 36 GND, 41 GND, 47 GND, 53 GND, 54 GND, 59 GND, 60 GND, 61 GND, 62 GND, 67 GND, 68 GND, 73 GND, 79 GND, 80 GND, 85 GND, 86 GND, 95 GND, 96 GND, 101 GND, 102 GND, 107 GND, 113 GND, 114 GND, 119 GND, 120 GND, 121 GND, 122 GND, 127 GND, 133 GND, 139 GND, 140 GND, 145 GND, 146 GND, 155 GND, 156 GND, 161 GND, 162 GND, 167 GND, 173 GND, 174 GND, 179 GND, 180 GND, 181 GND, 182 GND, 187 GND, 188 GND, 193 GND, 199 GND, 200 GND, 205 GND, 206 GND, 215 GND, 216 GND, 221 GND, 222 GND, 227 GND, 233 GND, 234 GND, 239 GND, 240 GND
part C pins: 10 NC, 69 NC, 71 NC, 78 NC, 104 NC, 106 NC, 108 NC, 110 NC, 112 NC, 128 NC, 134 NC, 136 NC, 138 NC, 147 NC, 148 NC, 149 NC, 150 NC, 151 NC, 152 NC, 153 NC, 154 NC, 163 NC, 164 NC, 165 NC, 166 NC, 168 NC, 170 NC, 172 NC, 176 NC, 202 NC, 204 NC, 208 NC, 236 NC, 238 NC

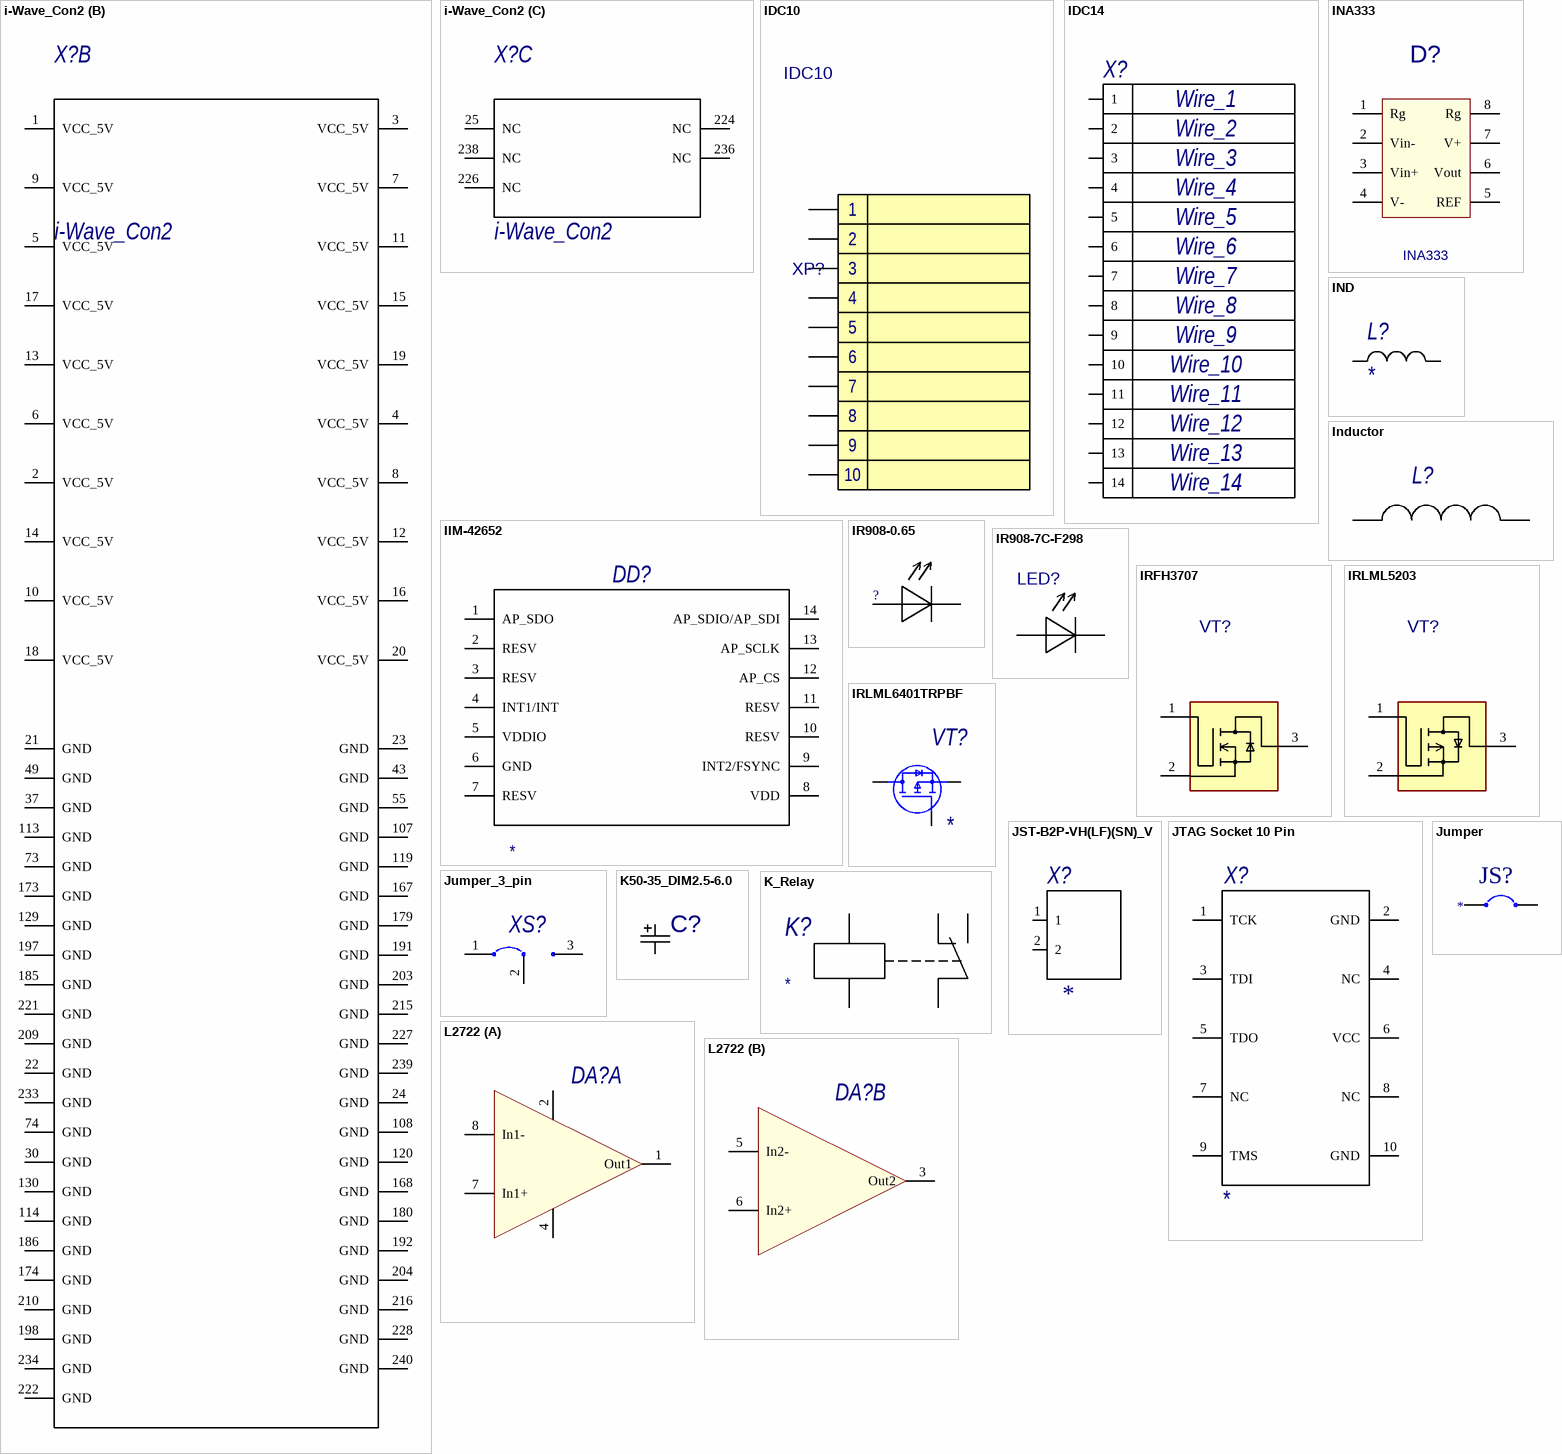
[diagram p14: symbols i-Wave_Con2 to L2722]

## i-Wave_Con2
designator X?
part A pins: 26 USB_OTG_DM, 27 PS_JTAG_TDI, 28 USB_OTG_DP, 29 PS_JTAG_TMS, 31 PS_JTAG_TCK, 32 USB_PWR_EN, 33 PS_JTAG_TDO, 34 USB_OTG_ID, 35 RESET_SW_IN, 36 VBUS_USB, 38 PS_I2C1_SDA(GPIO), 39 GPHY_DTXRXM, 40 PS_SD1_WP, 41 GPHY_DTXRXP, 42 PS_SD1_CD, 44 PS_SD1_PWR, 45 GPHY_CTXRXM, 46 PS_I2C0_SDA, 47 GPHY_CTXRXP, 48 PS_I2C0_SCL, 50 PS_UART1_TX, 51 GPHY_BTXRXM, 52 PS_UART1_RX, 53 GPHY_BTXRXP, 54 PS_UART0_TX, 56 PS_UART0_RX, 57 GPHY_ATXRXM, 58 GPHY_LINK_LED2, 59 GPHY_ATXRXP, 60 GPHY_ACTIVITY_LED1, 61 PS_SPI0_SCLK, 62 PS_SD1_DATA3, 63 PS_SPI0_SS0, 64 PS_SD1_DATA2, 65 PS_SPI0_MOSI, 66 PS_SD1_DATA1, 67 PS_SPI0_MISO, 68 VRTC_3V0, 69 PS_SD1_DATA0, 70 PS_I2C1_SCL(GPIO), 71 PS_SD1_CMD, 72 PS_SD1_CLK, 75 PL_AE1_LVDS66_L20N, 76 PL_AA2_LVDS66_L24P, 77 PL_AD1_LVDS66_L20P, 78 PL_AA1_LVDS66_L24N, 79 PL_AA5_LVDS66_L18N, 80 PL_AC1_LVDS66_L23N, 81 PL_AA6_LVDS66_L18P, 82 PL_AB1_LVDS66_L23P, 83 PL_AB9_LVDS66_L5N, 84 PL_AB3_LVDS66_L22N_DBC, 85 PL_AB10_LVDS66_L5P, 86 PL_AA3_LVDS66_L22P_DBC, 87 PL_W8_LVDS66_L9P, 88 PL_AD2_LVDS66_L19P_DBC, 89 PL_Y8_LVDS66_L9N, 90 PL_AE2_LVDS66_L19N_DBC, 91 PL_Y10_LVDS66_L6P, 92 PL_Y7_LVDS66_L10P_QBC, 93 PL_AA10_LVDS66_L6N, 94 PL_AA7_LVDS66_L10N_QBC, 95 PL_AA12_LVDS66_L2P, 96 PL_AD6_LVDS66_L8N, 97 PL_AA11_LVDS66_L2N, 98 PL_AC6_LVDS66_L8P, 99 PL_AB11_LVDS66_L3P, 100 PL_AC9_LVDS66_L7P_QBC, 101 PL_AC11_LVDS66_L3N, 102 PL_AD9_LVDS66_L7N_QBC, 103 PL_AC12_LVDS66_L1P_DBC, 104 PL_AD11_LVDS66_L4P_DBC, 105 PL_AD12_LVDS66_L1N_DBC, 106 PL_AD10_LVDS66_L4N_DBC, 109 PL_AB6_LVDS66_L14P_GC, 110 PL_AA8_LVDS66_L12P_GC, 111 PL_AB5_LVDS66_L14N_GC, 112 PL_AB8_LVDS66_L12N_GC, 115 PL_AD7_LVDS66_L13P_GC, 116 PL_AC8_LVDS66_L11P_GC, 117 PL_AE7_LVDS66_L13N_GC, 118 PL_AC7_LVDS66_L11N_GC, 121 PL_AC4_LVDS66_L17N, 122 PL_AC16_LVDS64_L15P, 123 PL_AB4_LVDS66_L17P, 124 PL_AD16_LVDS64_L15N, 125 PL_AE4_LVDS66_L16N_QBC, 126 PL_AA14_LVDS64_L4P_DBC, 127 PL_AD4_LVDS66_L16P_QBC, 128 PL_AB14_LVDS64_L4N_DBC, 131 PL_AC17_LVDS64_L17P, 132 PL_AG18_LVDS64_L23P, 133 PL_AC18_LVDS64_L17N, 134 PL_AH18_LVDS64_L23N, 135 PL_AD19_LVDS64_L18P, 136 PL_AG16_LVDS64_L19P_DBC, 137 PL_AE19_LVDS64_L18N, 138 PL_AH16_LVDS64_L19N_DBC, 139 PL_AD5_LVDS66_L15P, 140 PL_AE14_LVDS64_L2P, 141 PL_AE5_LVDS66_L15N, 142 PL_AE13_LVDS64_L2N, 143 PL_AC2_LVDS66_L21N, 144 PL_AC14_LVDS64_L3P, 145 PL_AC3_LVDS66_L21P, 146 PL_AD14_LVDS64_L3N, 147 PL_AE18_LVDS64_L24P, 148 PL_AD15_LVDS64_L6P, 149 PL_AF18_LVDS64_L24N, 150 PL_AE15_LVDS64_L6N, 151 PL_AH17_LVDS64_L21P, 152 PL_AK13_LVDS64_L8P, 153 PL_AJ17_LVDS64_L21N, 154 PL_AK12_LVDS64_L8N, 155 PL_AJ16_LVDS64_L20P, 156 PL_AJ14_LVDS64_L9P, 157 PL_AK16_LVDS64_L20N, 158 PL_AK14_LVDS64_L9N, 159 PL_AK17_LVDS64_L22P_DBC, 160 PL_AB15_LVDS64_L5N, 161 PL_AK18_LVDS64_L22N_DBC, 162 PL_AA15_LVDS64_L5P, 163 PL_AA13_LVDS64_L1P_DBC, 164 PL_AJ15_LVDS64_L10P_QBC, 165 PL_AB13_LVDS64_L1N_DBC, 166 PL_AK15_LVDS64_L10N_QBC, 169 PL_AD17_LVDS64_L14P_GC, 170 PL_AF16_LVDS64_L13P_GC, 171 PL_AE17_LVDS64_L14N_GC, 172 PL_AF17_LVDS64_L13N_GC, 175 PL_AF15_LVDS64_L12P_GC, 176 PL_AG14_LVDS64_L11P_GC, 177 PL_AG15_LVDS64_L12N_GC, 178 PL_AH14_LVDS64_L11N_GC, 181 PL_AH13_LVDS64_L7N_QBC, 182 PL_AA16_LVDS64_L16P_QBC, 183 PL_AG13_LVDS64_L7P_QBC, 184 PL_AB16_LVDS64_L16N_QBC, 187 GTHRXP0_226, 188 GTREFCLK0P_226, 189 GTHRXN0_226, 190 GTREFCLK0N_226, 193 GTHTXP0_226, 194 GTHRXP3_226, 195 GTHTXN0_226, 196 GTHRXN3_226, 199 GTHRXP1_226, 200 GTHTXP3_226, 201 GTHRXN1_226, 202 GTHTXN3_226, 205 GTHTXP1_226, 206 PS_MGTRRXP3_505, 207 GTHTXN1_226, 208 PS_MGTRRXN3_505, 211 GTHRXP2_226, 212 PS_MGTRTXP3_505, 213 GTHRXN2_226, 214 PS_MGTRTXN3_505, 217 GTHTXP2_226, 218 PS_MGTREFCLK3P_505, 219 GTHTXN2_226, 220 PS_MGTREFCLK3N_505, 223 GTREFCLK1P_226, 225 GTREFCLK1N_226, 229 PS_MGTRRXP2_505, 230 PS_MGTREFCLK2P_505, 231 PS_MGTRRXN2_505, 232 PS_MGTREFCLK2N_505, 235 PS_MGTRTXP2_505, 237 PS_MGTRTXN2_505
part B pins: 1 VCC_5V, 2 VCC_5V, 3 VCC_5V, 4 VCC_5V, 5 VCC_5V, 6 VCC_5V, 7 VCC_5V, 8 VCC_5V, 9 VCC_5V, 10 VCC_5V, 11 VCC_5V, 12 VCC_5V, 13 VCC_5V, 14 VCC_5V, 15 VCC_5V, 16 VCC_5V, 17 VCC_5V, 18 VCC_5V, 19 VCC_5V, 20 VCC_5V, 21 GND, 22 GND, 23 GND, 24 GND, 30 GND, 37 GND, 43 GND, 49 GND, 55 GND, 73 GND, 74 GND, 107 GND, 108 GND, 113 GND, 114 GND, 119 GND, 120 GND, 129 GND, 130 GND, 167 GND, 168 GND, 173 GND, 174 GND, 179 GND, 180 GND, 185 GND, 186 GND, 191 GND, 192 GND, 197 GND, 198 GND, 203 GND, 204 GND, 209 GND, 210 GND, 215 GND, 216 GND, 221 GND, 222 GND, 227 GND, 228 GND, 233 GND, 234 GND, 239 GND, 240 GND
part C pins: 25 NC, 224 NC, 226 NC, 236 NC, 238 NC

## IDC10
designator XP?
MntType: SMD; BOMDescription: SMD CONNECTOR      IDC10; MPN: IDC10; MSL: MSL 1; RoHS: Comply; PartType: CONNECTOR; Pins: 10
footprint BH-10
pins: 1, 2, 3, 4, 5, 6, 7, 8, 9, 10

## IDC14
designator X?  WIre9: Wire_9  WIre8: Wire_8  WIre7: Wire_7  WIre6: Wire_6  WIre5: Wire_5  WIre4: Wire_4  WIre3: Wire_3  WIre2: Wire_2  WIre14: Wire_14  WIre13: Wire_13  WIre12: Wire_12  WIre11: Wire_11  WIre10: Wire_10  WIre1: Wire_1  (hidden comment: IDC14)
MntType: SMD; BOMDescription: SMD CONNECTOR      IDC14; MPN: IDC14; MSL: MSL 1; RoHS: Comply; PartType: CONNECTOR; Pins: 14
footprint BH14
pins: 1, 2, 3, 4, 5, 6, 7, 8, 9, 10, 11, 12, 13, 14

## IIM-42652
designator DD?
6-axis IMU with accelerometer, gyro, thermometer; MPN: *
pins: 1 AP_SDO, 2 RESV, 3 RESV, 4 INT1/INT, 5 VDDIO, 6 GND, 7 RESV, 8 VDD, 9 INT2/FSYNC, 10 RESV, 11 RESV, 12 AP_CS, 13 AP_SCLK, 14 AP_SDIO/AP_SDI

## INA333
designator D?
MntType: SMD; BOMDescription: SMD INSTRUMENTAL OPAMP MSOP8     INA333; MPN: INA333; MSL: MSL 1; Package: MSOP8; RoHS: Comply; PartType: INSTRUMENTAL OPAMP; Pins: 8
footprint MSOP-8
pins: 1 Rg, 2 Vin-, 3 Vin+, 4 V-, 5 REF, 6 Vout, 7 V+, 8 Rg

## IND
designator L?
MPN: *; Value: *
pins: 1, 2

## Inductor
designator L?
MPN: B82464; MntType: SMD; MSL: MSL 1; RoHS: Comply; PartType: INDUCTOR; Pins: 2; BOMDescription: =MntType+' '+PartType+' '+Package+' '+Value+' '+Tolerance+' '+Voltage+' '+TempCoeff+' '+MPN
pins: 1, 2

## IR908-0.65
designator ?  (value not drawn)
MntType: SMD; MSL: MSL 1; RoHS: Comply; BOMDescription: SMD
footprint IR908-0.65
pins: 1 hidden, 1, 2 hidden, 2

## IR908-7C-F298
designator LED?
MntType: SMD; MSL: MSL 1; RoHS: Comply; BOMDescription: SMD
footprint IR908-0.65
pins: 1, 2

## IRFH3707
designator VT?  (value not drawn)
MntType: SMD; BOMDescription: SMD N-MOSFET PQFN 3x3     IRFH3707; MPN: IRFH3707; MSL: MSL 1; Package: PQFN 3x3; RoHS: Comply; PartType: N-MOSFET; Pins: 3
pins: 1, 2, 3

## IRLML5203
designator VT?  (value not drawn)
MntType: SMD; BOMDescription: SMD N-MOSFET SOT-23     IRLML5203; MPN: IRLML5203; MSL: MSL 1; Package: SOT-23; RoHS: Comply; PartType: N-MOSFET; Pins: 3
footprint SOT-23
pins: 1, 2, 3

## IRLML6401TRPBF
designator VT?
MPN: *
pins: 1 G, 2 S, 3 D

## JST-B2P-VH(LF)(SN)_V
designator X?
pins: 1, 2

## JTAG Socket 10 Pin
designator X?
ComponentLink1Description: Datasheet; MPN: *
pins: 1 TCK "Test Clock", 2 GND "Ground", 3 TDI "Test Data Input", 4 NC "Not Connected", 5 TDO "Test Data Output", 6 VCC "Power", 7 NC "Not Connected", 8 NC "Not Connected", 9 TMS "Test Mode Select", 10 GND "Ground"

## Jumper
designator JS?  (no BOM)
State: *
footprint PCB_JUMPER_OFF (soldable jumper OFF state)
footprint PCB_JUMPER_ON (soldable jumper ON state)
pins: 1, 2

## Jumper_3_pin
designator XS?  (value not drawn)  (no BOM)
State: *
footprint PCB_JUMPER_OFF (soldable jumper OFF state)
footprint PCB_JUMPER_ON (soldable jumper ON state)
pins: 1, 2, 3

## K50-35_DIM2.5-6.0
designator C?
MntType: DIP; BOMDescription: DIP ALUMINIUM CAPACITOR K50-35_DIM2.5-6.0; MSL: MSL 1; Package: K50-35_DIM2.5-6.0; RoHS: Comply; PartType: ALUMINIUM CAPACITOR; Pins: 2
footprint CE25-60
pins: 1, 2

## K_Relay
designator K?
MPN: *
pins: 1, 2, 3, 4, 5

## L2722
designator DA?
part A pins: 1 Out1, 2 V+ (power), 4 GND (power), 7 In1+, 8 In1-
part B pins: 3 Out2, 5 In2-, 6 In2+

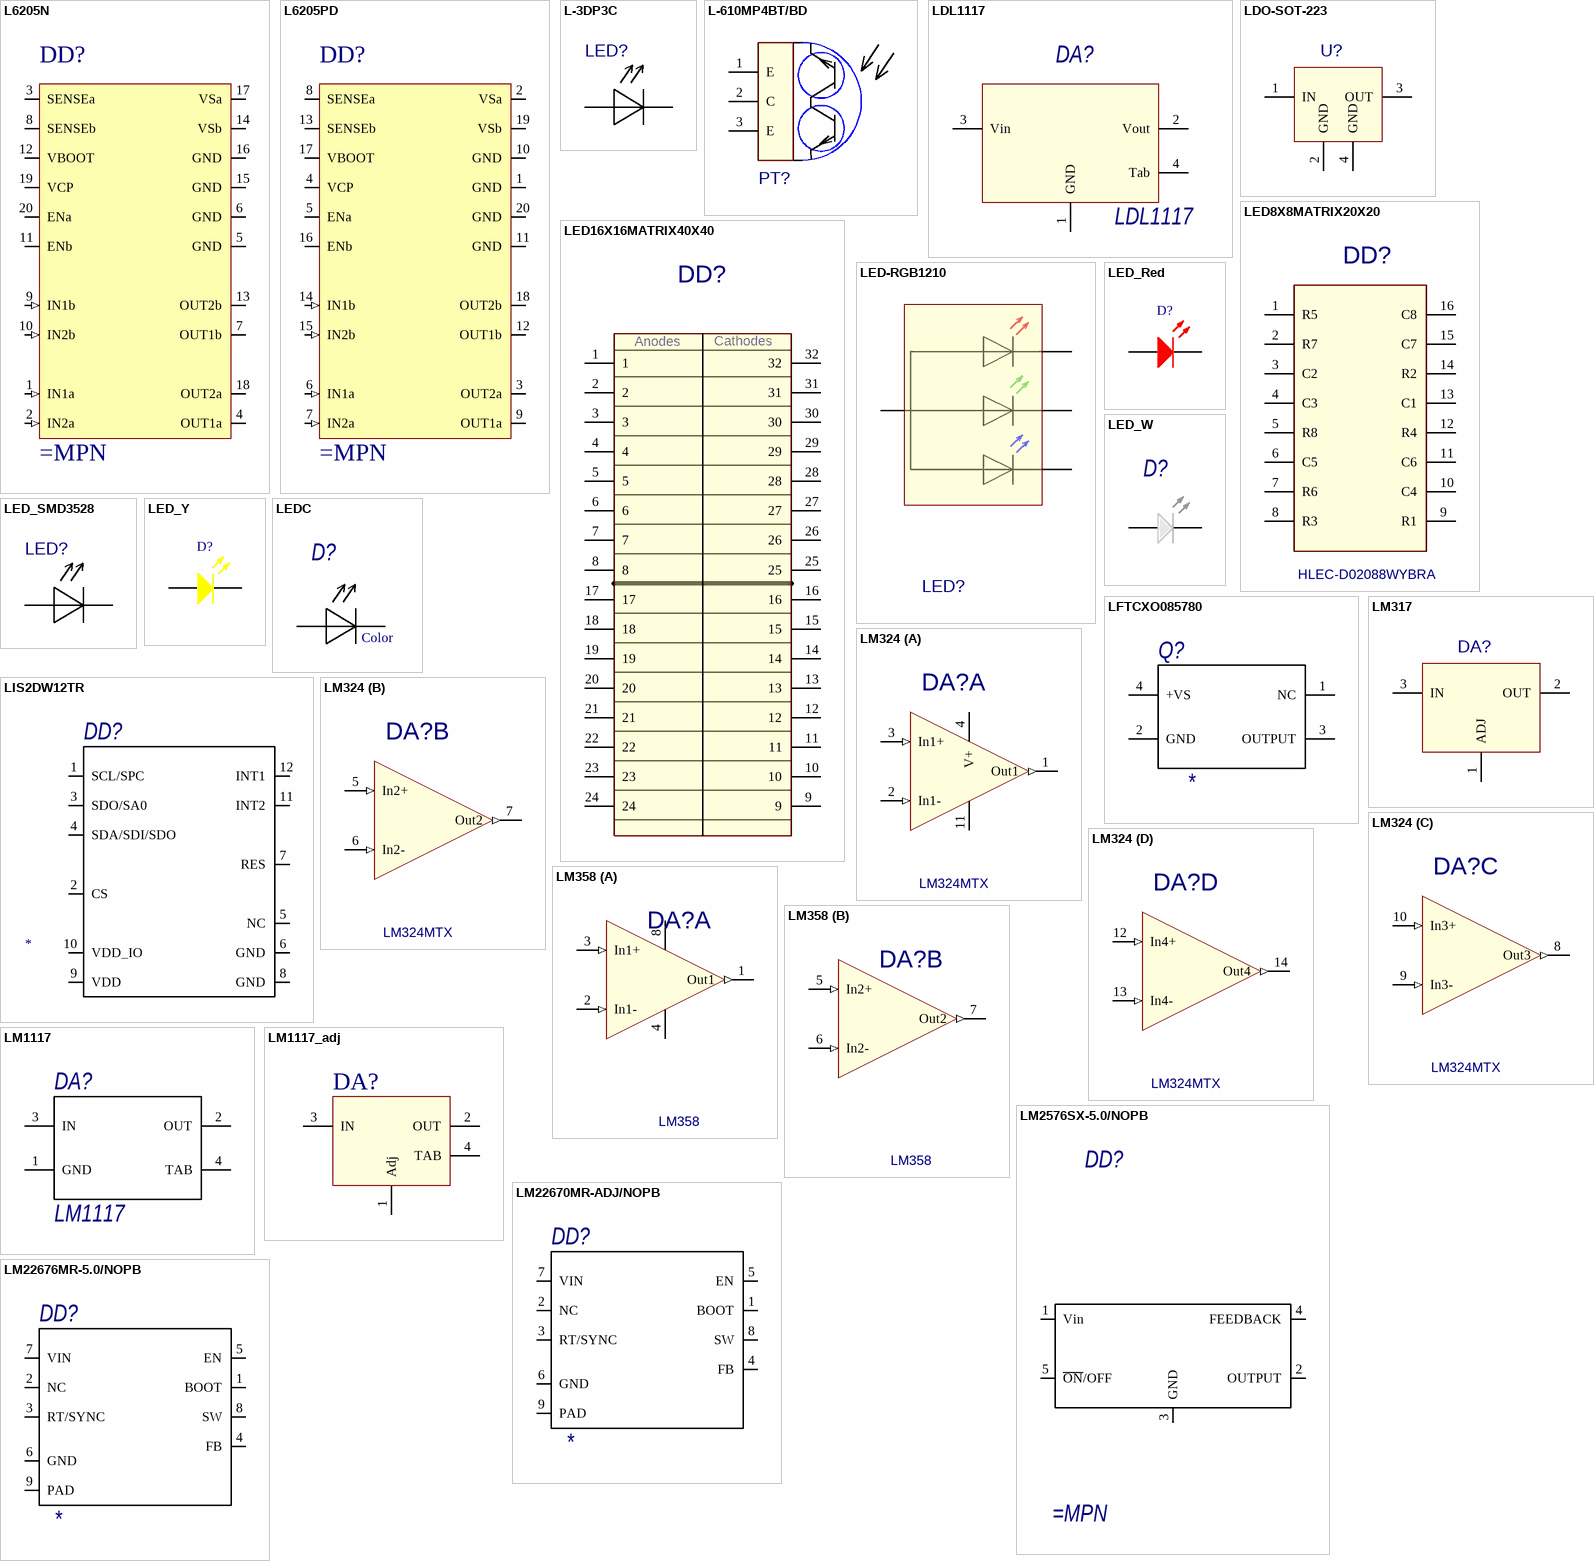
[diagram p15: symbols L6205N to LM22676MR-5.0/NOPB]

## L6205N
designator DD?
pins: 1 IN1a (in), 2 IN2a (in), 3 SENSEa, 4 OUT1a (power), 5 GND (power), 6 GND (power), 7 OUT1b (power), 8 SENSEb, 9 IN1b (in), 10 IN2b (in), 11 ENb, 12 VBOOT, 13 OUT2b (power), 14 VSb (power), 15 GND (power), 16 GND (power), 17 VSa (power), 18 OUT2a (power), 19 VCP, 20 ENa

## L6205PD
designator DD?
pins: 1 GND (power), 2 VSa (power), 3 OUT2a (power), 4 VCP, 5 ENa, 6 IN1a (in), 7 IN2a (in), 8 SENSEa, 9 OUT1a (power), 10 GND (power), 11 GND (power), 12 OUT1b (power), 13 SENSEb, 14 IN1b (in), 15 IN2b (in), 16 ENb, 17 VBOOT, 18 OUT2b (power), 19 VSb (power), 20 GND (power)

## L-3DP3C
designator LED?  (value not drawn)
MntType: DIP; BOMDescription: DIP PHOTOTRANSISTOR LEDD_L-3DP3C     L-3DP3C; MPN: L-3DP3C; MSL: MSL 1; Package: LEDD_L-3DP3C; RoHS: Comply; PartType: PHOTOTRANSISTOR; Pins: 2
footprint IR908
pins: 1, 2

## L-610MP4BT/BD
designator PT?  (value not drawn)
MntType: DIP; BOMDescription: DIP PHOTOTRANSISTOR LEDD_L-610MP4BT/BD     L-610MP4BT/BD; MPN: L-610MP4BT/BD; MSL: MSL 1; Package: LEDD_L-610MP4BT/BD; RoHS: Comply; PartType: PHOTOTRANSISTOR; Pins: 3
footprint PHOTOTRANS254
pins: 1 E, 2 C, 3 E